# Altium schematic symbol library MCU_ST_STM32F1.SchLib: 125 symbols (part 4 of 4)
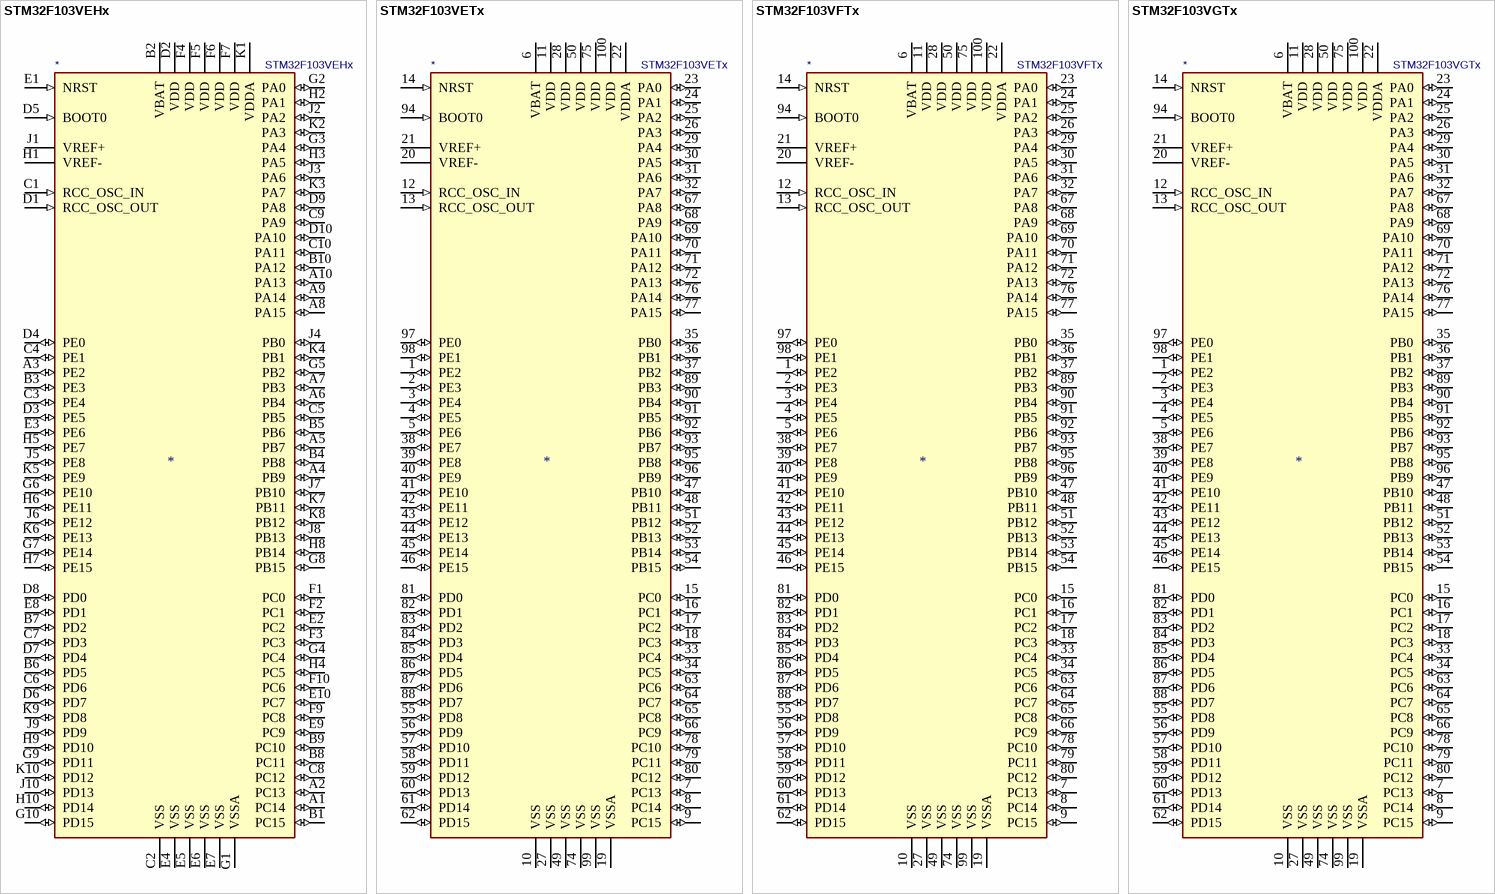
[diagram p23: symbols STM32F103VEHx to STM32F103VGTx]

## STM32F103VGTx
designator *  value STM32F103VGTx
ki_keywords: ARM Cortex-M3 STM32F1 STM32F103; ki_description: ARM Cortex-M3 MCU, 1024KB flash, 96KB RAM, 72MHz, 2-3.6V, 82 GPIO, LQFP-100; ki_fp_filters: LQFP*14x14mm*P0.5mm*; Footprint: Package_QFP:LQFP-100_14x14mm_P0.5mm; Supplier: http://www.st.com/st-web-ui/static/active/en/resource/technical/document/datasheet/CD00253742.pdf
footprint LQFP-100_14x14mm_P0.5mm
pins: 1 PE2 (io), 2 PE3 (io), 3 PE4 (io), 4 PE5 (io), 5 PE6 (io), 6 VBAT (power), 7 PC13 (io), 8 PC14 (io), 9 PC15 (io), 10 VSS (power), 11 VDD (power), 12 RCC_OSC_IN (in), 13 RCC_OSC_OUT (in), 14 NRST (in), 15 PC0 (io), 16 PC1 (io), 17 PC2 (io), 18 PC3 (io), 19 VSSA (power), 20 VREF- (power), 21 VREF+ (power), 22 VDDA (power), 23 PA0 (io), 24 PA1 (io), 25 PA2 (io), 26 PA3 (io), 27 VSS (power), 28 VDD (power), 29 PA4 (io), 30 PA5 (io), 31 PA6 (io), 32 PA7 (io), 33 PC4 (io), 34 PC5 (io), 35 PB0 (io), 36 PB1 (io), 37 PB2 (io), 38 PE7 (io), 39 PE8 (io), 40 PE9 (io), 41 PE10 (io), 42 PE11 (io), 43 PE12 (io), 44 PE13 (io), 45 PE14 (io), 46 PE15 (io), 47 PB10 (io), 48 PB11 (io), 49 VSS (power), 50 VDD (power), 51 PB12 (io), 52 PB13 (io), 53 PB14 (io), 54 PB15 (io), 55 PD8 (io), 56 PD9 (io), 57 PD10 (io), 58 PD11 (io), 59 PD12 (io), 60 PD13 (io), 61 PD14 (io), 62 PD15 (io), 63 PC6 (io), 64 PC7 (io), 65 PC8 (io), 66 PC9 (io), 67 PA8 (io), 68 PA9 (io), 69 PA10 (io), 70 PA11 (io), 71 PA12 (io), 72 PA13 (io), 73 NC (in) hidden, 74 VSS (power), 75 VDD (power), 76 PA14 (io), 77 PA15 (io), 78 PC10 (io), 79 PC11 (io), 80 PC12 (io), 81 PD0 (io), 82 PD1 (io), 83 PD2 (io), 84 PD3 (io), 85 PD4 (io), 86 PD5 (io), 87 PD6 (io), 88 PD7 (io), 89 PB3 (io), 90 PB4 (io), 91 PB5 (io), 92 PB6 (io), 93 PB7 (io), 94 BOOT0 (in), 95 PB8 (io), 96 PB9 (io), 97 PE0 (io), 98 PE1 (io), 99 VSS (power), 100 VDD (power)

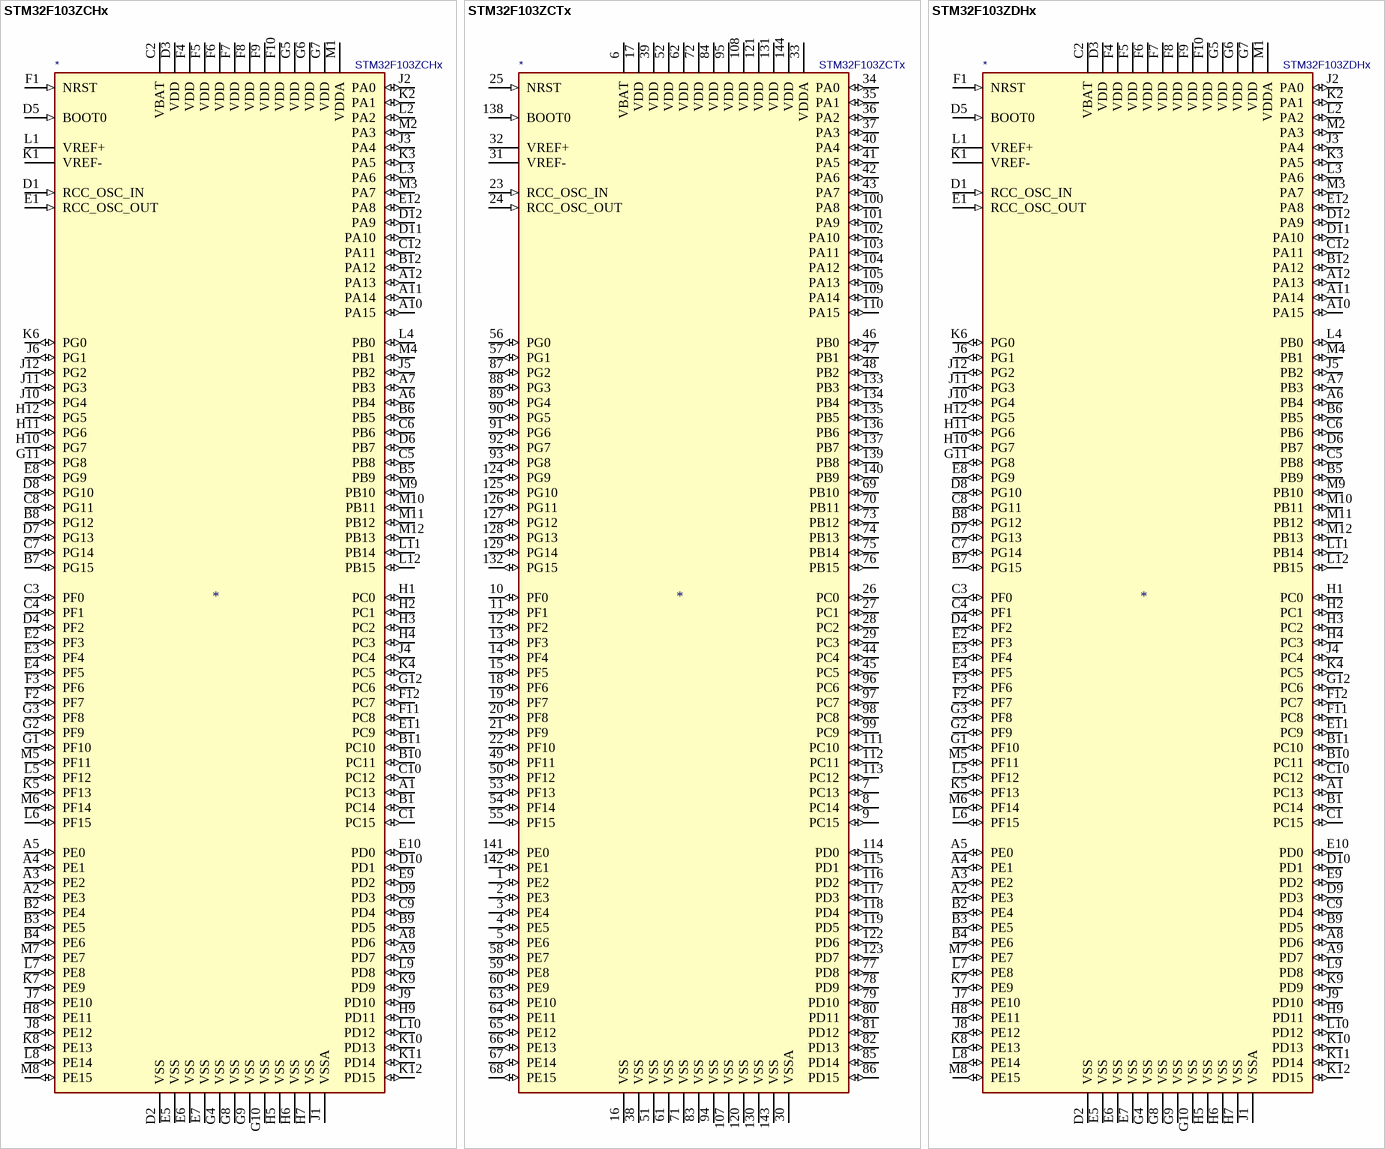
[diagram p15: symbols STM32F103ZCHx to STM32F103ZDHx]

## STM32F103ZCHx
designator *  value STM32F103ZCHx
ki_keywords: ARM Cortex-M3 STM32F1 STM32F103; ki_description: ARM Cortex-M3 MCU, 256KB flash, 48KB RAM, 72MHz, 2-3.6V, 114 GPIO, LFBGA-144; ki_fp_filters: LFBGA*10x10mm*Layout12x12*P0.8mm*; Footprint: Package_BGA:LFBGA-144_10x10mm_Layout12x12_P0.8mm; Supplier: http://www.st.com/st-web-ui/static/active/en/resource/technical/document/datasheet/CD00191185.pdf
footprint LFBGA-144_10x10mm_Layout12x12_P0.8mm
pins: A1 PC13 (io), A2 PE3 (io), A3 PE2 (io), A4 PE1 (io), A5 PE0 (io), A6 PB4 (io), A7 PB3 (io), A8 PD6 (io), A9 PD7 (io), A10 PA15 (io), A11 PA14 (io), A12 PA13 (io), B1 PC14 (io), B2 PE4 (io), B3 PE5 (io), B4 PE6 (io), B5 PB9 (io), B6 PB5 (io), B7 PG15 (io), B8 PG12 (io), B9 PD5 (io), B10 PC11 (io), B11 PC10 (io), B12 PA12 (io), C1 PC15 (io), C2 VBAT (power), C3 PF0 (io), C4 PF1 (io), C5 PB8 (io), C6 PB6 (io), C7 PG14 (io), C8 PG11 (io), C9 PD4 (io), C10 PC12 (io), C11 NC (in) hidden, C12 PA11 (io), D1 RCC_OSC_IN (in), D2 VSS (power), D3 VDD (power), D4 PF2 (io), D5 BOOT0 (in), D6 PB7 (io), D7 PG13 (io), D8 PG10 (io), D9 PD3 (io), D10 PD1 (io), D11 PA10 (io), D12 PA9 (io), E1 RCC_OSC_OUT (in), E2 PF3 (io), E3 PF4 (io), E4 PF5 (io), E5 VSS (power), E6 VSS (power), E7 VSS (power), E8 PG9 (io), E9 PD2 (io), E10 PD0 (io), E11 PC9 (io), E12 PA8 (io), F1 NRST (in), F2 PF7 (io), F3 PF6 (io), F4 VDD (power), F5 VDD (power), F6 VDD (power), F7 VDD (power), F8 VDD (power), F9 VDD (power), F10 VDD (power), F11 PC8 (io), F12 PC7 (io), G1 PF10 (io), G2 PF9 (io), G3 PF8 (io), G4 VSS (power), G5 VDD (power), G6 VDD (power), G7 VDD (power), G8 VSS (power), G9 VSS (power), G10 VSS (power), G11 PG8 (io), G12 PC6 (io), H1 PC0 (io), H2 PC1 (io), H3 PC2 (io), H4 PC3 (io), H5 VSS (power), H6 VSS (power), H7 VSS (power), H8 PE11 (io), H9 PD11 (io), H10 PG7 (io), H11 PG6 (io), H12 PG5 (io), J1 VSSA (power), J2 PA0 (io), J3 PA4 (io), J4 PC4 (io), J5 PB2 (io), J6 PG1 (io), J7 PE10 (io), J8 PE12 (io), J9 PD10 (io), J10 PG4 (io), J11 PG3 (io), J12 PG2 (io), K1 VREF- (power), K2 PA1 (io), K3 PA5 (io), K4 PC5 (io), K5 PF13 (io), K6 PG0 (io), K7 PE9 (io), K8 PE13 (io), K9 PD9 (io), K10 PD13 (io), K11 PD14 (io), K12 PD15 (io), L1 VREF+ (power), L2 PA2 (io), L3 PA6 (io), L4 PB0 (io), L5 PF12 (io), L6 PF15 (io), L7 PE8 (io), L8 PE14 (io), L9 PD8 (io), L10 PD12 (io), L11 PB14 (io), L12 PB15 (io), M1 VDDA (power), M2 PA3 (io), M3 PA7 (io), M4 PB1 (io), M5 PF11 (io), M6 PF14 (io), M7 PE7 (io), M8 PE15 (io), M9 PB10 (io), M10 PB11 (io), M11 PB12 (io), M12 PB13 (io)

## STM32F103ZCTx
designator *  value STM32F103ZCTx
ki_keywords: ARM Cortex-M3 STM32F1 STM32F103; ki_description: ARM Cortex-M3 MCU, 256KB flash, 48KB RAM, 72MHz, 2-3.6V, 114 GPIO, LQFP-144; ki_fp_filters: LQFP*20x20mm*P0.5mm*; Footprint: Package_QFP:LQFP-144_20x20mm_P0.5mm; Supplier: http://www.st.com/st-web-ui/static/active/en/resource/technical/document/datasheet/CD00191185.pdf
footprint LQFP-144_20x20mm_P0.5mm
pins: 1 PE2 (io), 2 PE3 (io), 3 PE4 (io), 4 PE5 (io), 5 PE6 (io), 6 VBAT (power), 7 PC13 (io), 8 PC14 (io), 9 PC15 (io), 10 PF0 (io), 11 PF1 (io), 12 PF2 (io), 13 PF3 (io), 14 PF4 (io), 15 PF5 (io), 16 VSS (power), 17 VDD (power), 18 PF6 (io), 19 PF7 (io), 20 PF8 (io), 21 PF9 (io), 22 PF10 (io), 23 RCC_OSC_IN (in), 24 RCC_OSC_OUT (in), 25 NRST (in), 26 PC0 (io), 27 PC1 (io), 28 PC2 (io), 29 PC3 (io), 30 VSSA (power), 31 VREF- (power), 32 VREF+ (power), 33 VDDA (power), 34 PA0 (io), 35 PA1 (io), 36 PA2 (io), 37 PA3 (io), 38 VSS (power), 39 VDD (power), 40 PA4 (io), 41 PA5 (io), 42 PA6 (io), 43 PA7 (io), 44 PC4 (io), 45 PC5 (io), 46 PB0 (io), 47 PB1 (io), 48 PB2 (io), 49 PF11 (io), 50 PF12 (io), 51 VSS (power), 52 VDD (power), 53 PF13 (io), 54 PF14 (io), 55 PF15 (io), 56 PG0 (io), 57 PG1 (io), 58 PE7 (io), 59 PE8 (io), 60 PE9 (io), 61 VSS (power), 62 VDD (power), 63 PE10 (io), 64 PE11 (io), 65 PE12 (io), 66 PE13 (io), 67 PE14 (io), 68 PE15 (io), 69 PB10 (io), 70 PB11 (io), 71 VSS (power), 72 VDD (power), 73 PB12 (io), 74 PB13 (io), 75 PB14 (io), 76 PB15 (io), 77 PD8 (io), 78 PD9 (io), 79 PD10 (io), 80 PD11 (io), 81 PD12 (io), 82 PD13 (io), 83 VSS (power), 84 VDD (power), 85 PD14 (io), 86 PD15 (io), 87 PG2 (io), 88 PG3 (io), 89 PG4 (io), 90 PG5 (io), 91 PG6 (io), 92 PG7 (io), 93 PG8 (io), 94 VSS (power), 95 VDD (power), 96 PC6 (io), 97 PC7 (io), 98 PC8 (io), 99 PC9 (io), 100 PA8 (io), 101 PA9 (io), 102 PA10 (io), 103 PA11 (io), 104 PA12 (io), 105 PA13 (io), 106 NC (in) hidden, 107 VSS (power), 108 VDD (power), 109 PA14 (io), 110 PA15 (io), 111 PC10 (io), 112 PC11 (io), 113 PC12 (io), 114 PD0 (io), 115 PD1 (io), 116 PD2 (io), 117 PD3 (io), 118 PD4 (io), 119 PD5 (io), 120 VSS (power), 121 VDD (power), 122 PD6 (io), 123 PD7 (io), 124 PG9 (io), 125 PG10 (io), 126 PG11 (io), 127 PG12 (io), 128 PG13 (io), 129 PG14 (io), 130 VSS (power), 131 VDD (power), 132 PG15 (io), 133 PB3 (io), 134 PB4 (io), 135 PB5 (io), 136 PB6 (io), 137 PB7 (io), 138 BOOT0 (in), 139 PB8 (io), 140 PB9 (io), 141 PE0 (io), 142 PE1 (io), 143 VSS (power), 144 VDD (power)

## STM32F103ZDHx
designator *  value STM32F103ZDHx
ki_keywords: ARM Cortex-M3 STM32F1 STM32F103; ki_description: ARM Cortex-M3 MCU, 384KB flash, 64KB RAM, 72MHz, 2-3.6V, 114 GPIO, LFBGA-144; ki_fp_filters: LFBGA*10x10mm*Layout12x12*P0.8mm*; Footprint: Package_BGA:LFBGA-144_10x10mm_Layout12x12_P0.8mm; Supplier: http://www.st.com/st-web-ui/static/active/en/resource/technical/document/datasheet/CD00191185.pdf
footprint LFBGA-144_10x10mm_Layout12x12_P0.8mm
pins: A1 PC13 (io), A2 PE3 (io), A3 PE2 (io), A4 PE1 (io), A5 PE0 (io), A6 PB4 (io), A7 PB3 (io), A8 PD6 (io), A9 PD7 (io), A10 PA15 (io), A11 PA14 (io), A12 PA13 (io), B1 PC14 (io), B2 PE4 (io), B3 PE5 (io), B4 PE6 (io), B5 PB9 (io), B6 PB5 (io), B7 PG15 (io), B8 PG12 (io), B9 PD5 (io), B10 PC11 (io), B11 PC10 (io), B12 PA12 (io), C1 PC15 (io), C2 VBAT (power), C3 PF0 (io), C4 PF1 (io), C5 PB8 (io), C6 PB6 (io), C7 PG14 (io), C8 PG11 (io), C9 PD4 (io), C10 PC12 (io), C11 NC (in) hidden, C12 PA11 (io), D1 RCC_OSC_IN (in), D2 VSS (power), D3 VDD (power), D4 PF2 (io), D5 BOOT0 (in), D6 PB7 (io), D7 PG13 (io), D8 PG10 (io), D9 PD3 (io), D10 PD1 (io), D11 PA10 (io), D12 PA9 (io), E1 RCC_OSC_OUT (in), E2 PF3 (io), E3 PF4 (io), E4 PF5 (io), E5 VSS (power), E6 VSS (power), E7 VSS (power), E8 PG9 (io), E9 PD2 (io), E10 PD0 (io), E11 PC9 (io), E12 PA8 (io), F1 NRST (in), F2 PF7 (io), F3 PF6 (io), F4 VDD (power), F5 VDD (power), F6 VDD (power), F7 VDD (power), F8 VDD (power), F9 VDD (power), F10 VDD (power), F11 PC8 (io), F12 PC7 (io), G1 PF10 (io), G2 PF9 (io), G3 PF8 (io), G4 VSS (power), G5 VDD (power), G6 VDD (power), G7 VDD (power), G8 VSS (power), G9 VSS (power), G10 VSS (power), G11 PG8 (io), G12 PC6 (io), H1 PC0 (io), H2 PC1 (io), H3 PC2 (io), H4 PC3 (io), H5 VSS (power), H6 VSS (power), H7 VSS (power), H8 PE11 (io), H9 PD11 (io), H10 PG7 (io), H11 PG6 (io), H12 PG5 (io), J1 VSSA (power), J2 PA0 (io), J3 PA4 (io), J4 PC4 (io), J5 PB2 (io), J6 PG1 (io), J7 PE10 (io), J8 PE12 (io), J9 PD10 (io), J10 PG4 (io), J11 PG3 (io), J12 PG2 (io), K1 VREF- (power), K2 PA1 (io), K3 PA5 (io), K4 PC5 (io), K5 PF13 (io), K6 PG0 (io), K7 PE9 (io), K8 PE13 (io), K9 PD9 (io), K10 PD13 (io), K11 PD14 (io), K12 PD15 (io), L1 VREF+ (power), L2 PA2 (io), L3 PA6 (io), L4 PB0 (io), L5 PF12 (io), L6 PF15 (io), L7 PE8 (io), L8 PE14 (io), L9 PD8 (io), L10 PD12 (io), L11 PB14 (io), L12 PB15 (io), M1 VDDA (power), M2 PA3 (io), M3 PA7 (io), M4 PB1 (io), M5 PF11 (io), M6 PF14 (io), M7 PE7 (io), M8 PE15 (io), M9 PB10 (io), M10 PB11 (io), M11 PB12 (io), M12 PB13 (io)

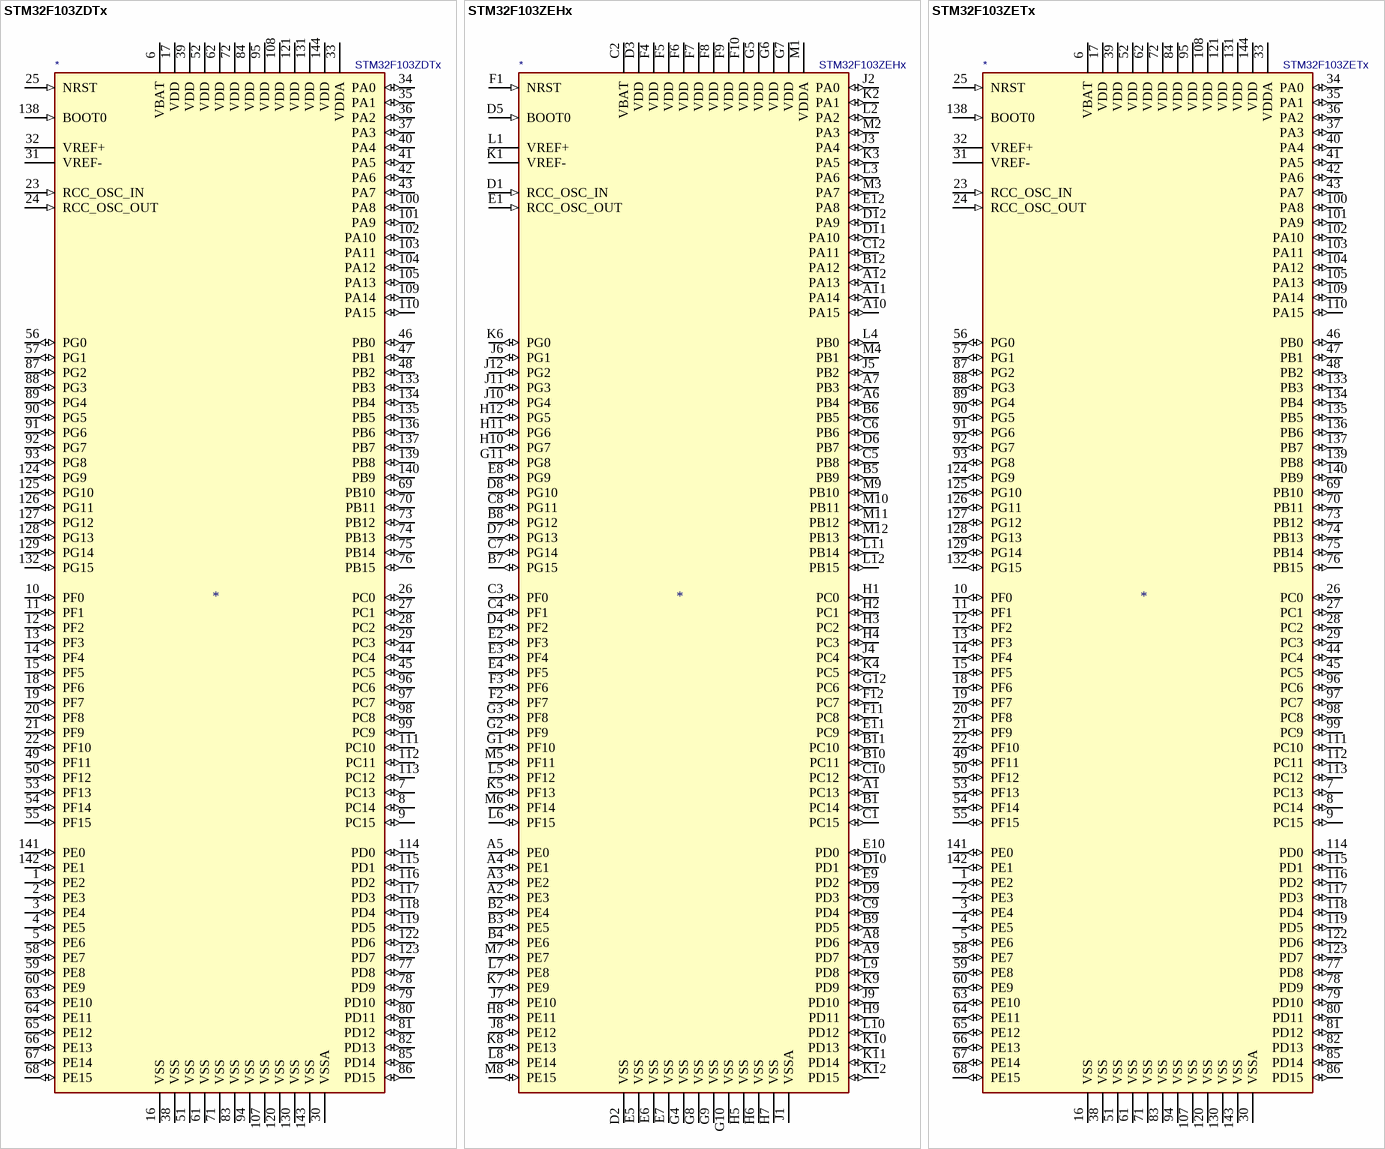
[diagram p16: symbols STM32F103ZDTx to STM32F103ZETx]

## STM32F103ZDTx
designator *  value STM32F103ZDTx
ki_keywords: ARM Cortex-M3 STM32F1 STM32F103; ki_description: ARM Cortex-M3 MCU, 384KB flash, 64KB RAM, 72MHz, 2-3.6V, 114 GPIO, LQFP-144; ki_fp_filters: LQFP*20x20mm*P0.5mm*; Footprint: Package_QFP:LQFP-144_20x20mm_P0.5mm; Supplier: http://www.st.com/st-web-ui/static/active/en/resource/technical/document/datasheet/CD00191185.pdf
footprint LQFP-144_20x20mm_P0.5mm
pins: 1 PE2 (io), 2 PE3 (io), 3 PE4 (io), 4 PE5 (io), 5 PE6 (io), 6 VBAT (power), 7 PC13 (io), 8 PC14 (io), 9 PC15 (io), 10 PF0 (io), 11 PF1 (io), 12 PF2 (io), 13 PF3 (io), 14 PF4 (io), 15 PF5 (io), 16 VSS (power), 17 VDD (power), 18 PF6 (io), 19 PF7 (io), 20 PF8 (io), 21 PF9 (io), 22 PF10 (io), 23 RCC_OSC_IN (in), 24 RCC_OSC_OUT (in), 25 NRST (in), 26 PC0 (io), 27 PC1 (io), 28 PC2 (io), 29 PC3 (io), 30 VSSA (power), 31 VREF- (power), 32 VREF+ (power), 33 VDDA (power), 34 PA0 (io), 35 PA1 (io), 36 PA2 (io), 37 PA3 (io), 38 VSS (power), 39 VDD (power), 40 PA4 (io), 41 PA5 (io), 42 PA6 (io), 43 PA7 (io), 44 PC4 (io), 45 PC5 (io), 46 PB0 (io), 47 PB1 (io), 48 PB2 (io), 49 PF11 (io), 50 PF12 (io), 51 VSS (power), 52 VDD (power), 53 PF13 (io), 54 PF14 (io), 55 PF15 (io), 56 PG0 (io), 57 PG1 (io), 58 PE7 (io), 59 PE8 (io), 60 PE9 (io), 61 VSS (power), 62 VDD (power), 63 PE10 (io), 64 PE11 (io), 65 PE12 (io), 66 PE13 (io), 67 PE14 (io), 68 PE15 (io), 69 PB10 (io), 70 PB11 (io), 71 VSS (power), 72 VDD (power), 73 PB12 (io), 74 PB13 (io), 75 PB14 (io), 76 PB15 (io), 77 PD8 (io), 78 PD9 (io), 79 PD10 (io), 80 PD11 (io), 81 PD12 (io), 82 PD13 (io), 83 VSS (power), 84 VDD (power), 85 PD14 (io), 86 PD15 (io), 87 PG2 (io), 88 PG3 (io), 89 PG4 (io), 90 PG5 (io), 91 PG6 (io), 92 PG7 (io), 93 PG8 (io), 94 VSS (power), 95 VDD (power), 96 PC6 (io), 97 PC7 (io), 98 PC8 (io), 99 PC9 (io), 100 PA8 (io), 101 PA9 (io), 102 PA10 (io), 103 PA11 (io), 104 PA12 (io), 105 PA13 (io), 106 NC (in) hidden, 107 VSS (power), 108 VDD (power), 109 PA14 (io), 110 PA15 (io), 111 PC10 (io), 112 PC11 (io), 113 PC12 (io), 114 PD0 (io), 115 PD1 (io), 116 PD2 (io), 117 PD3 (io), 118 PD4 (io), 119 PD5 (io), 120 VSS (power), 121 VDD (power), 122 PD6 (io), 123 PD7 (io), 124 PG9 (io), 125 PG10 (io), 126 PG11 (io), 127 PG12 (io), 128 PG13 (io), 129 PG14 (io), 130 VSS (power), 131 VDD (power), 132 PG15 (io), 133 PB3 (io), 134 PB4 (io), 135 PB5 (io), 136 PB6 (io), 137 PB7 (io), 138 BOOT0 (in), 139 PB8 (io), 140 PB9 (io), 141 PE0 (io), 142 PE1 (io), 143 VSS (power), 144 VDD (power)

## STM32F103ZEHx
designator *  value STM32F103ZEHx
ki_keywords: ARM Cortex-M3 STM32F1 STM32F103; ki_description: ARM Cortex-M3 MCU, 512KB flash, 64KB RAM, 72MHz, 2-3.6V, 114 GPIO, LFBGA-144; ki_fp_filters: LFBGA*10x10mm*Layout12x12*P0.8mm*; Footprint: Package_BGA:LFBGA-144_10x10mm_Layout12x12_P0.8mm; Supplier: http://www.st.com/st-web-ui/static/active/en/resource/technical/document/datasheet/CD00191185.pdf
footprint LFBGA-144_10x10mm_Layout12x12_P0.8mm
pins: A1 PC13 (io), A2 PE3 (io), A3 PE2 (io), A4 PE1 (io), A5 PE0 (io), A6 PB4 (io), A7 PB3 (io), A8 PD6 (io), A9 PD7 (io), A10 PA15 (io), A11 PA14 (io), A12 PA13 (io), B1 PC14 (io), B2 PE4 (io), B3 PE5 (io), B4 PE6 (io), B5 PB9 (io), B6 PB5 (io), B7 PG15 (io), B8 PG12 (io), B9 PD5 (io), B10 PC11 (io), B11 PC10 (io), B12 PA12 (io), C1 PC15 (io), C2 VBAT (power), C3 PF0 (io), C4 PF1 (io), C5 PB8 (io), C6 PB6 (io), C7 PG14 (io), C8 PG11 (io), C9 PD4 (io), C10 PC12 (io), C11 NC (in) hidden, C12 PA11 (io), D1 RCC_OSC_IN (in), D2 VSS (power), D3 VDD (power), D4 PF2 (io), D5 BOOT0 (in), D6 PB7 (io), D7 PG13 (io), D8 PG10 (io), D9 PD3 (io), D10 PD1 (io), D11 PA10 (io), D12 PA9 (io), E1 RCC_OSC_OUT (in), E2 PF3 (io), E3 PF4 (io), E4 PF5 (io), E5 VSS (power), E6 VSS (power), E7 VSS (power), E8 PG9 (io), E9 PD2 (io), E10 PD0 (io), E11 PC9 (io), E12 PA8 (io), F1 NRST (in), F2 PF7 (io), F3 PF6 (io), F4 VDD (power), F5 VDD (power), F6 VDD (power), F7 VDD (power), F8 VDD (power), F9 VDD (power), F10 VDD (power), F11 PC8 (io), F12 PC7 (io), G1 PF10 (io), G2 PF9 (io), G3 PF8 (io), G4 VSS (power), G5 VDD (power), G6 VDD (power), G7 VDD (power), G8 VSS (power), G9 VSS (power), G10 VSS (power), G11 PG8 (io), G12 PC6 (io), H1 PC0 (io), H2 PC1 (io), H3 PC2 (io), H4 PC3 (io), H5 VSS (power), H6 VSS (power), H7 VSS (power), H8 PE11 (io), H9 PD11 (io), H10 PG7 (io), H11 PG6 (io), H12 PG5 (io), J1 VSSA (power), J2 PA0 (io), J3 PA4 (io), J4 PC4 (io), J5 PB2 (io), J6 PG1 (io), J7 PE10 (io), J8 PE12 (io), J9 PD10 (io), J10 PG4 (io), J11 PG3 (io), J12 PG2 (io), K1 VREF- (power), K2 PA1 (io), K3 PA5 (io), K4 PC5 (io), K5 PF13 (io), K6 PG0 (io), K7 PE9 (io), K8 PE13 (io), K9 PD9 (io), K10 PD13 (io), K11 PD14 (io), K12 PD15 (io), L1 VREF+ (power), L2 PA2 (io), L3 PA6 (io), L4 PB0 (io), L5 PF12 (io), L6 PF15 (io), L7 PE8 (io), L8 PE14 (io), L9 PD8 (io), L10 PD12 (io), L11 PB14 (io), L12 PB15 (io), M1 VDDA (power), M2 PA3 (io), M3 PA7 (io), M4 PB1 (io), M5 PF11 (io), M6 PF14 (io), M7 PE7 (io), M8 PE15 (io), M9 PB10 (io), M10 PB11 (io), M11 PB12 (io), M12 PB13 (io)

## STM32F103ZETx
designator *  value STM32F103ZETx
ki_keywords: ARM Cortex-M3 STM32F1 STM32F103; ki_description: ARM Cortex-M3 MCU, 512KB flash, 64KB RAM, 72MHz, 2-3.6V, 114 GPIO, LQFP-144; ki_fp_filters: LQFP*20x20mm*P0.5mm*; Footprint: Package_QFP:LQFP-144_20x20mm_P0.5mm; Supplier: http://www.st.com/st-web-ui/static/active/en/resource/technical/document/datasheet/CD00191185.pdf
footprint LQFP-144_20x20mm_P0.5mm
pins: 1 PE2 (io), 2 PE3 (io), 3 PE4 (io), 4 PE5 (io), 5 PE6 (io), 6 VBAT (power), 7 PC13 (io), 8 PC14 (io), 9 PC15 (io), 10 PF0 (io), 11 PF1 (io), 12 PF2 (io), 13 PF3 (io), 14 PF4 (io), 15 PF5 (io), 16 VSS (power), 17 VDD (power), 18 PF6 (io), 19 PF7 (io), 20 PF8 (io), 21 PF9 (io), 22 PF10 (io), 23 RCC_OSC_IN (in), 24 RCC_OSC_OUT (in), 25 NRST (in), 26 PC0 (io), 27 PC1 (io), 28 PC2 (io), 29 PC3 (io), 30 VSSA (power), 31 VREF- (power), 32 VREF+ (power), 33 VDDA (power), 34 PA0 (io), 35 PA1 (io), 36 PA2 (io), 37 PA3 (io), 38 VSS (power), 39 VDD (power), 40 PA4 (io), 41 PA5 (io), 42 PA6 (io), 43 PA7 (io), 44 PC4 (io), 45 PC5 (io), 46 PB0 (io), 47 PB1 (io), 48 PB2 (io), 49 PF11 (io), 50 PF12 (io), 51 VSS (power), 52 VDD (power), 53 PF13 (io), 54 PF14 (io), 55 PF15 (io), 56 PG0 (io), 57 PG1 (io), 58 PE7 (io), 59 PE8 (io), 60 PE9 (io), 61 VSS (power), 62 VDD (power), 63 PE10 (io), 64 PE11 (io), 65 PE12 (io), 66 PE13 (io), 67 PE14 (io), 68 PE15 (io), 69 PB10 (io), 70 PB11 (io), 71 VSS (power), 72 VDD (power), 73 PB12 (io), 74 PB13 (io), 75 PB14 (io), 76 PB15 (io), 77 PD8 (io), 78 PD9 (io), 79 PD10 (io), 80 PD11 (io), 81 PD12 (io), 82 PD13 (io), 83 VSS (power), 84 VDD (power), 85 PD14 (io), 86 PD15 (io), 87 PG2 (io), 88 PG3 (io), 89 PG4 (io), 90 PG5 (io), 91 PG6 (io), 92 PG7 (io), 93 PG8 (io), 94 VSS (power), 95 VDD (power), 96 PC6 (io), 97 PC7 (io), 98 PC8 (io), 99 PC9 (io), 100 PA8 (io), 101 PA9 (io), 102 PA10 (io), 103 PA11 (io), 104 PA12 (io), 105 PA13 (io), 106 NC (in) hidden, 107 VSS (power), 108 VDD (power), 109 PA14 (io), 110 PA15 (io), 111 PC10 (io), 112 PC11 (io), 113 PC12 (io), 114 PD0 (io), 115 PD1 (io), 116 PD2 (io), 117 PD3 (io), 118 PD4 (io), 119 PD5 (io), 120 VSS (power), 121 VDD (power), 122 PD6 (io), 123 PD7 (io), 124 PG9 (io), 125 PG10 (io), 126 PG11 (io), 127 PG12 (io), 128 PG13 (io), 129 PG14 (io), 130 VSS (power), 131 VDD (power), 132 PG15 (io), 133 PB3 (io), 134 PB4 (io), 135 PB5 (io), 136 PB6 (io), 137 PB7 (io), 138 BOOT0 (in), 139 PB8 (io), 140 PB9 (io), 141 PE0 (io), 142 PE1 (io), 143 VSS (power), 144 VDD (power)

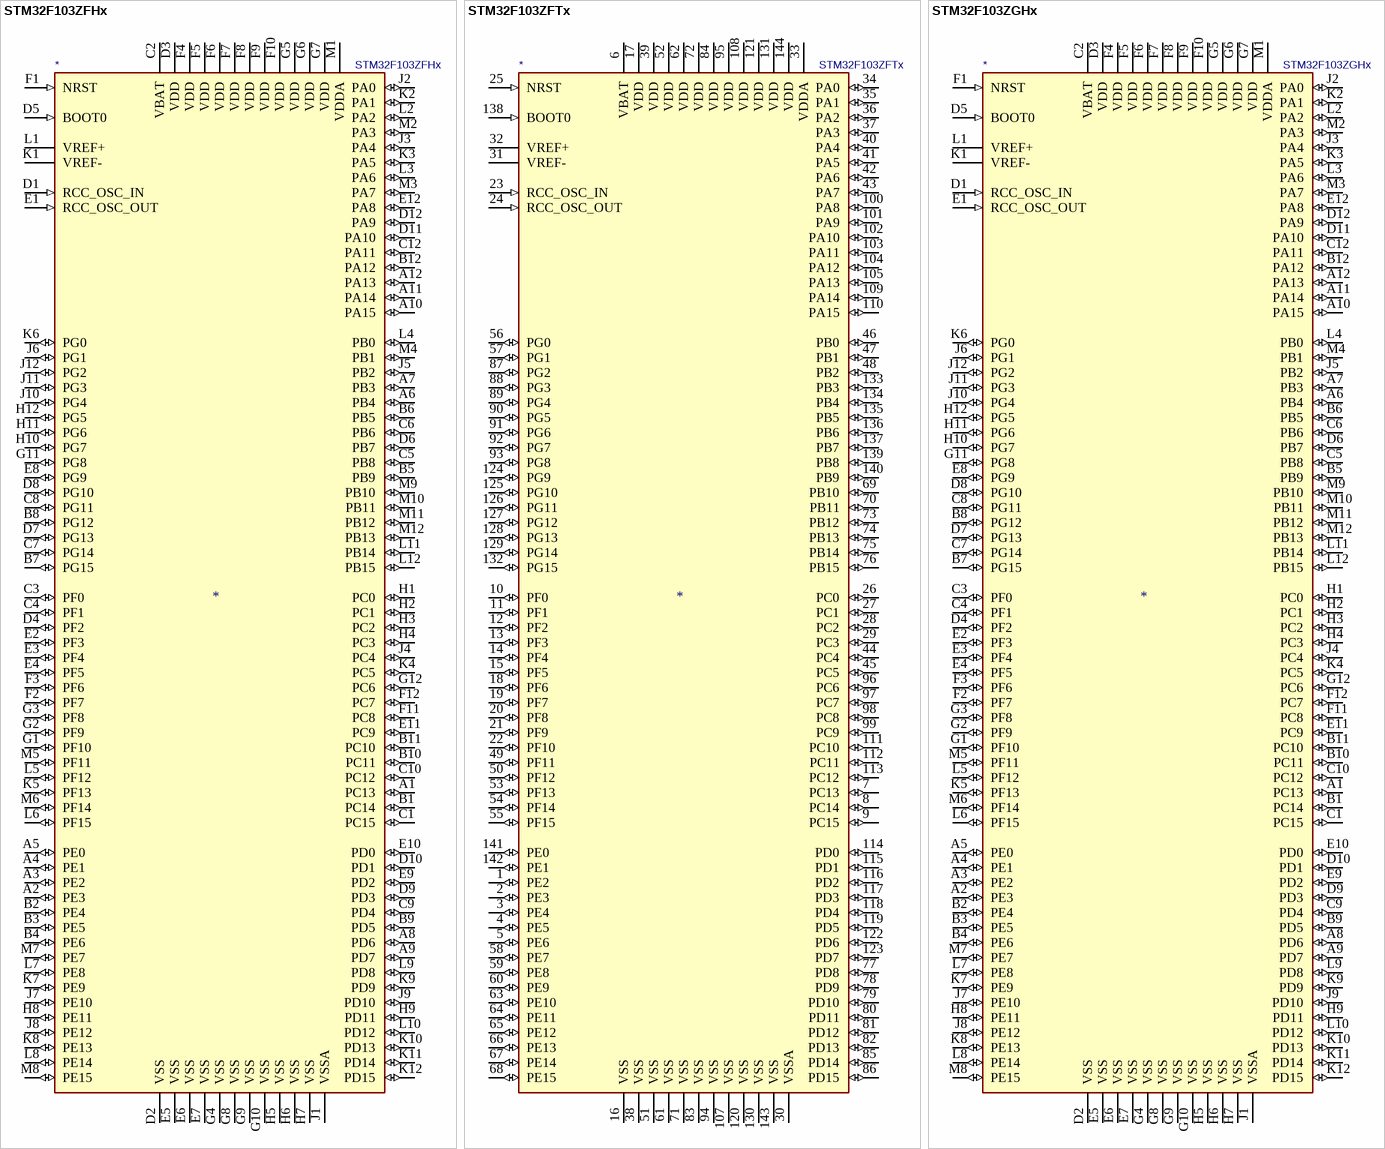
[diagram p17: symbols STM32F103ZFHx to STM32F103ZGHx]

## STM32F103ZFHx
designator *  value STM32F103ZFHx
ki_keywords: ARM Cortex-M3 STM32F1 STM32F103; ki_description: ARM Cortex-M3 MCU, 768KB flash, 96KB RAM, 72MHz, 2-3.6V, 114 GPIO, LFBGA-144; ki_fp_filters: LFBGA*10x10mm*Layout12x12*P0.8mm*; Footprint: Package_BGA:LFBGA-144_10x10mm_Layout12x12_P0.8mm; Supplier: http://www.st.com/st-web-ui/static/active/en/resource/technical/document/datasheet/CD00253742.pdf
footprint LFBGA-144_10x10mm_Layout12x12_P0.8mm
pins: A1 PC13 (io), A2 PE3 (io), A3 PE2 (io), A4 PE1 (io), A5 PE0 (io), A6 PB4 (io), A7 PB3 (io), A8 PD6 (io), A9 PD7 (io), A10 PA15 (io), A11 PA14 (io), A12 PA13 (io), B1 PC14 (io), B2 PE4 (io), B3 PE5 (io), B4 PE6 (io), B5 PB9 (io), B6 PB5 (io), B7 PG15 (io), B8 PG12 (io), B9 PD5 (io), B10 PC11 (io), B11 PC10 (io), B12 PA12 (io), C1 PC15 (io), C2 VBAT (power), C3 PF0 (io), C4 PF1 (io), C5 PB8 (io), C6 PB6 (io), C7 PG14 (io), C8 PG11 (io), C9 PD4 (io), C10 PC12 (io), C11 NC (in) hidden, C12 PA11 (io), D1 RCC_OSC_IN (in), D2 VSS (power), D3 VDD (power), D4 PF2 (io), D5 BOOT0 (in), D6 PB7 (io), D7 PG13 (io), D8 PG10 (io), D9 PD3 (io), D10 PD1 (io), D11 PA10 (io), D12 PA9 (io), E1 RCC_OSC_OUT (in), E2 PF3 (io), E3 PF4 (io), E4 PF5 (io), E5 VSS (power), E6 VSS (power), E7 VSS (power), E8 PG9 (io), E9 PD2 (io), E10 PD0 (io), E11 PC9 (io), E12 PA8 (io), F1 NRST (in), F2 PF7 (io), F3 PF6 (io), F4 VDD (power), F5 VDD (power), F6 VDD (power), F7 VDD (power), F8 VDD (power), F9 VDD (power), F10 VDD (power), F11 PC8 (io), F12 PC7 (io), G1 PF10 (io), G2 PF9 (io), G3 PF8 (io), G4 VSS (power), G5 VDD (power), G6 VDD (power), G7 VDD (power), G8 VSS (power), G9 VSS (power), G10 VSS (power), G11 PG8 (io), G12 PC6 (io), H1 PC0 (io), H2 PC1 (io), H3 PC2 (io), H4 PC3 (io), H5 VSS (power), H6 VSS (power), H7 VSS (power), H8 PE11 (io), H9 PD11 (io), H10 PG7 (io), H11 PG6 (io), H12 PG5 (io), J1 VSSA (power), J2 PA0 (io), J3 PA4 (io), J4 PC4 (io), J5 PB2 (io), J6 PG1 (io), J7 PE10 (io), J8 PE12 (io), J9 PD10 (io), J10 PG4 (io), J11 PG3 (io), J12 PG2 (io), K1 VREF- (power), K2 PA1 (io), K3 PA5 (io), K4 PC5 (io), K5 PF13 (io), K6 PG0 (io), K7 PE9 (io), K8 PE13 (io), K9 PD9 (io), K10 PD13 (io), K11 PD14 (io), K12 PD15 (io), L1 VREF+ (power), L2 PA2 (io), L3 PA6 (io), L4 PB0 (io), L5 PF12 (io), L6 PF15 (io), L7 PE8 (io), L8 PE14 (io), L9 PD8 (io), L10 PD12 (io), L11 PB14 (io), L12 PB15 (io), M1 VDDA (power), M2 PA3 (io), M3 PA7 (io), M4 PB1 (io), M5 PF11 (io), M6 PF14 (io), M7 PE7 (io), M8 PE15 (io), M9 PB10 (io), M10 PB11 (io), M11 PB12 (io), M12 PB13 (io)

## STM32F103ZFTx
designator *  value STM32F103ZFTx
ki_keywords: ARM Cortex-M3 STM32F1 STM32F103; ki_description: ARM Cortex-M3 MCU, 768KB flash, 96KB RAM, 72MHz, 2-3.6V, 114 GPIO, LQFP-144; ki_fp_filters: LQFP*20x20mm*P0.5mm*; Footprint: Package_QFP:LQFP-144_20x20mm_P0.5mm; Supplier: http://www.st.com/st-web-ui/static/active/en/resource/technical/document/datasheet/CD00253742.pdf
footprint LQFP-144_20x20mm_P0.5mm
pins: 1 PE2 (io), 2 PE3 (io), 3 PE4 (io), 4 PE5 (io), 5 PE6 (io), 6 VBAT (power), 7 PC13 (io), 8 PC14 (io), 9 PC15 (io), 10 PF0 (io), 11 PF1 (io), 12 PF2 (io), 13 PF3 (io), 14 PF4 (io), 15 PF5 (io), 16 VSS (power), 17 VDD (power), 18 PF6 (io), 19 PF7 (io), 20 PF8 (io), 21 PF9 (io), 22 PF10 (io), 23 RCC_OSC_IN (in), 24 RCC_OSC_OUT (in), 25 NRST (in), 26 PC0 (io), 27 PC1 (io), 28 PC2 (io), 29 PC3 (io), 30 VSSA (power), 31 VREF- (power), 32 VREF+ (power), 33 VDDA (power), 34 PA0 (io), 35 PA1 (io), 36 PA2 (io), 37 PA3 (io), 38 VSS (power), 39 VDD (power), 40 PA4 (io), 41 PA5 (io), 42 PA6 (io), 43 PA7 (io), 44 PC4 (io), 45 PC5 (io), 46 PB0 (io), 47 PB1 (io), 48 PB2 (io), 49 PF11 (io), 50 PF12 (io), 51 VSS (power), 52 VDD (power), 53 PF13 (io), 54 PF14 (io), 55 PF15 (io), 56 PG0 (io), 57 PG1 (io), 58 PE7 (io), 59 PE8 (io), 60 PE9 (io), 61 VSS (power), 62 VDD (power), 63 PE10 (io), 64 PE11 (io), 65 PE12 (io), 66 PE13 (io), 67 PE14 (io), 68 PE15 (io), 69 PB10 (io), 70 PB11 (io), 71 VSS (power), 72 VDD (power), 73 PB12 (io), 74 PB13 (io), 75 PB14 (io), 76 PB15 (io), 77 PD8 (io), 78 PD9 (io), 79 PD10 (io), 80 PD11 (io), 81 PD12 (io), 82 PD13 (io), 83 VSS (power), 84 VDD (power), 85 PD14 (io), 86 PD15 (io), 87 PG2 (io), 88 PG3 (io), 89 PG4 (io), 90 PG5 (io), 91 PG6 (io), 92 PG7 (io), 93 PG8 (io), 94 VSS (power), 95 VDD (power), 96 PC6 (io), 97 PC7 (io), 98 PC8 (io), 99 PC9 (io), 100 PA8 (io), 101 PA9 (io), 102 PA10 (io), 103 PA11 (io), 104 PA12 (io), 105 PA13 (io), 106 NC (in) hidden, 107 VSS (power), 108 VDD (power), 109 PA14 (io), 110 PA15 (io), 111 PC10 (io), 112 PC11 (io), 113 PC12 (io), 114 PD0 (io), 115 PD1 (io), 116 PD2 (io), 117 PD3 (io), 118 PD4 (io), 119 PD5 (io), 120 VSS (power), 121 VDD (power), 122 PD6 (io), 123 PD7 (io), 124 PG9 (io), 125 PG10 (io), 126 PG11 (io), 127 PG12 (io), 128 PG13 (io), 129 PG14 (io), 130 VSS (power), 131 VDD (power), 132 PG15 (io), 133 PB3 (io), 134 PB4 (io), 135 PB5 (io), 136 PB6 (io), 137 PB7 (io), 138 BOOT0 (in), 139 PB8 (io), 140 PB9 (io), 141 PE0 (io), 142 PE1 (io), 143 VSS (power), 144 VDD (power)

## STM32F103ZGHx
designator *  value STM32F103ZGHx
ki_keywords: ARM Cortex-M3 STM32F1 STM32F103; ki_description: ARM Cortex-M3 MCU, 1024KB flash, 96KB RAM, 72MHz, 2-3.6V, 114 GPIO, LFBGA-144; ki_fp_filters: LFBGA*10x10mm*Layout12x12*P0.8mm*; Footprint: Package_BGA:LFBGA-144_10x10mm_Layout12x12_P0.8mm; Supplier: http://www.st.com/st-web-ui/static/active/en/resource/technical/document/datasheet/CD00253742.pdf
footprint LFBGA-144_10x10mm_Layout12x12_P0.8mm
pins: A1 PC13 (io), A2 PE3 (io), A3 PE2 (io), A4 PE1 (io), A5 PE0 (io), A6 PB4 (io), A7 PB3 (io), A8 PD6 (io), A9 PD7 (io), A10 PA15 (io), A11 PA14 (io), A12 PA13 (io), B1 PC14 (io), B2 PE4 (io), B3 PE5 (io), B4 PE6 (io), B5 PB9 (io), B6 PB5 (io), B7 PG15 (io), B8 PG12 (io), B9 PD5 (io), B10 PC11 (io), B11 PC10 (io), B12 PA12 (io), C1 PC15 (io), C2 VBAT (power), C3 PF0 (io), C4 PF1 (io), C5 PB8 (io), C6 PB6 (io), C7 PG14 (io), C8 PG11 (io), C9 PD4 (io), C10 PC12 (io), C11 NC (in) hidden, C12 PA11 (io), D1 RCC_OSC_IN (in), D2 VSS (power), D3 VDD (power), D4 PF2 (io), D5 BOOT0 (in), D6 PB7 (io), D7 PG13 (io), D8 PG10 (io), D9 PD3 (io), D10 PD1 (io), D11 PA10 (io), D12 PA9 (io), E1 RCC_OSC_OUT (in), E2 PF3 (io), E3 PF4 (io), E4 PF5 (io), E5 VSS (power), E6 VSS (power), E7 VSS (power), E8 PG9 (io), E9 PD2 (io), E10 PD0 (io), E11 PC9 (io), E12 PA8 (io), F1 NRST (in), F2 PF7 (io), F3 PF6 (io), F4 VDD (power), F5 VDD (power), F6 VDD (power), F7 VDD (power), F8 VDD (power), F9 VDD (power), F10 VDD (power), F11 PC8 (io), F12 PC7 (io), G1 PF10 (io), G2 PF9 (io), G3 PF8 (io), G4 VSS (power), G5 VDD (power), G6 VDD (power), G7 VDD (power), G8 VSS (power), G9 VSS (power), G10 VSS (power), G11 PG8 (io), G12 PC6 (io), H1 PC0 (io), H2 PC1 (io), H3 PC2 (io), H4 PC3 (io), H5 VSS (power), H6 VSS (power), H7 VSS (power), H8 PE11 (io), H9 PD11 (io), H10 PG7 (io), H11 PG6 (io), H12 PG5 (io), J1 VSSA (power), J2 PA0 (io), J3 PA4 (io), J4 PC4 (io), J5 PB2 (io), J6 PG1 (io), J7 PE10 (io), J8 PE12 (io), J9 PD10 (io), J10 PG4 (io), J11 PG3 (io), J12 PG2 (io), K1 VREF- (power), K2 PA1 (io), K3 PA5 (io), K4 PC5 (io), K5 PF13 (io), K6 PG0 (io), K7 PE9 (io), K8 PE13 (io), K9 PD9 (io), K10 PD13 (io), K11 PD14 (io), K12 PD15 (io), L1 VREF+ (power), L2 PA2 (io), L3 PA6 (io), L4 PB0 (io), L5 PF12 (io), L6 PF15 (io), L7 PE8 (io), L8 PE14 (io), L9 PD8 (io), L10 PD12 (io), L11 PB14 (io), L12 PB15 (io), M1 VDDA (power), M2 PA3 (io), M3 PA7 (io), M4 PB1 (io), M5 PF11 (io), M6 PF14 (io), M7 PE7 (io), M8 PE15 (io), M9 PB10 (io), M10 PB11 (io), M11 PB12 (io), M12 PB13 (io)

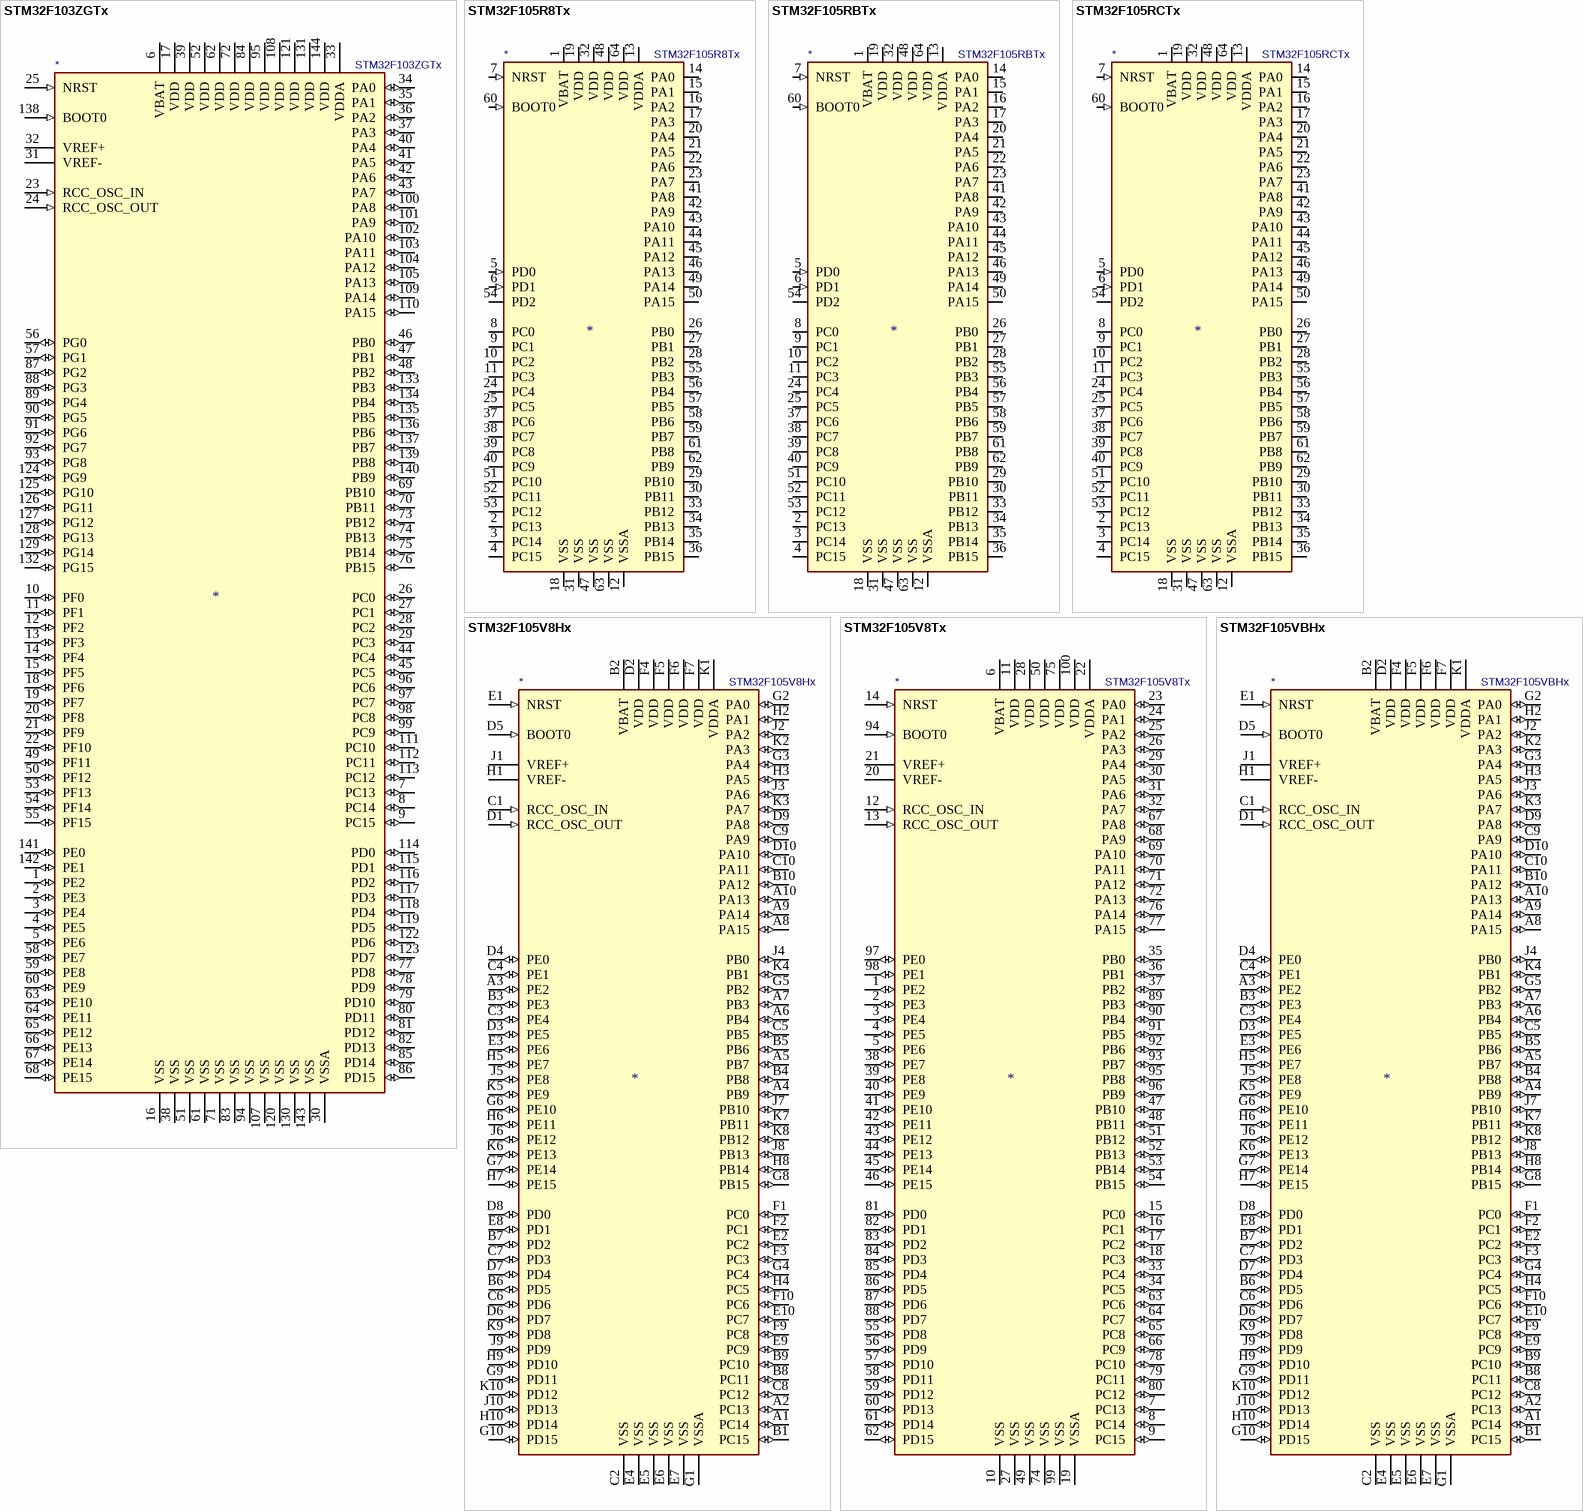
[diagram p18: symbols STM32F103ZGTx to STM32F105VBHx]

## STM32F103ZGTx
designator *  value STM32F103ZGTx
ki_keywords: ARM Cortex-M3 STM32F1 STM32F103; ki_description: ARM Cortex-M3 MCU, 1024KB flash, 96KB RAM, 72MHz, 2-3.6V, 114 GPIO, LQFP-144; ki_fp_filters: LQFP*20x20mm*P0.5mm*; Footprint: Package_QFP:LQFP-144_20x20mm_P0.5mm; Supplier: http://www.st.com/st-web-ui/static/active/en/resource/technical/document/datasheet/CD00253742.pdf
footprint LQFP-144_20x20mm_P0.5mm
pins: 1 PE2 (io), 2 PE3 (io), 3 PE4 (io), 4 PE5 (io), 5 PE6 (io), 6 VBAT (power), 7 PC13 (io), 8 PC14 (io), 9 PC15 (io), 10 PF0 (io), 11 PF1 (io), 12 PF2 (io), 13 PF3 (io), 14 PF4 (io), 15 PF5 (io), 16 VSS (power), 17 VDD (power), 18 PF6 (io), 19 PF7 (io), 20 PF8 (io), 21 PF9 (io), 22 PF10 (io), 23 RCC_OSC_IN (in), 24 RCC_OSC_OUT (in), 25 NRST (in), 26 PC0 (io), 27 PC1 (io), 28 PC2 (io), 29 PC3 (io), 30 VSSA (power), 31 VREF- (power), 32 VREF+ (power), 33 VDDA (power), 34 PA0 (io), 35 PA1 (io), 36 PA2 (io), 37 PA3 (io), 38 VSS (power), 39 VDD (power), 40 PA4 (io), 41 PA5 (io), 42 PA6 (io), 43 PA7 (io), 44 PC4 (io), 45 PC5 (io), 46 PB0 (io), 47 PB1 (io), 48 PB2 (io), 49 PF11 (io), 50 PF12 (io), 51 VSS (power), 52 VDD (power), 53 PF13 (io), 54 PF14 (io), 55 PF15 (io), 56 PG0 (io), 57 PG1 (io), 58 PE7 (io), 59 PE8 (io), 60 PE9 (io), 61 VSS (power), 62 VDD (power), 63 PE10 (io), 64 PE11 (io), 65 PE12 (io), 66 PE13 (io), 67 PE14 (io), 68 PE15 (io), 69 PB10 (io), 70 PB11 (io), 71 VSS (power), 72 VDD (power), 73 PB12 (io), 74 PB13 (io), 75 PB14 (io), 76 PB15 (io), 77 PD8 (io), 78 PD9 (io), 79 PD10 (io), 80 PD11 (io), 81 PD12 (io), 82 PD13 (io), 83 VSS (power), 84 VDD (power), 85 PD14 (io), 86 PD15 (io), 87 PG2 (io), 88 PG3 (io), 89 PG4 (io), 90 PG5 (io), 91 PG6 (io), 92 PG7 (io), 93 PG8 (io), 94 VSS (power), 95 VDD (power), 96 PC6 (io), 97 PC7 (io), 98 PC8 (io), 99 PC9 (io), 100 PA8 (io), 101 PA9 (io), 102 PA10 (io), 103 PA11 (io), 104 PA12 (io), 105 PA13 (io), 106 NC (in) hidden, 107 VSS (power), 108 VDD (power), 109 PA14 (io), 110 PA15 (io), 111 PC10 (io), 112 PC11 (io), 113 PC12 (io), 114 PD0 (io), 115 PD1 (io), 116 PD2 (io), 117 PD3 (io), 118 PD4 (io), 119 PD5 (io), 120 VSS (power), 121 VDD (power), 122 PD6 (io), 123 PD7 (io), 124 PG9 (io), 125 PG10 (io), 126 PG11 (io), 127 PG12 (io), 128 PG13 (io), 129 PG14 (io), 130 VSS (power), 131 VDD (power), 132 PG15 (io), 133 PB3 (io), 134 PB4 (io), 135 PB5 (io), 136 PB6 (io), 137 PB7 (io), 138 BOOT0 (in), 139 PB8 (io), 140 PB9 (io), 141 PE0 (io), 142 PE1 (io), 143 VSS (power), 144 VDD (power)

## STM32F105R8Tx
designator *  value STM32F105R8Tx
ki_keywords: ARM Cortex-M3 STM32F1 STM32F105/107; ki_description: ARM Cortex-M3 MCU, 64KB flash, 64KB RAM, 72MHz, 2-3.6V, 51 GPIO, LQFP-64; ki_fp_filters: LQFP*10x10mm*P0.5mm*; Footprint: Package_QFP:LQFP-64_10x10mm_P0.5mm; Supplier: http://www.st.com/st-web-ui/static/active/en/resource/technical/document/datasheet/CD00220364.pdf
footprint LQFP-64_10x10mm_P0.5mm
pins: 1 VBAT (power), 2 PC13 (io), 3 PC14 (io), 4 PC15 (io), 5 PD0 (in), 6 PD1 (in), 7 NRST (in), 8 PC0 (io), 9 PC1 (io), 10 PC2 (io), 11 PC3 (io), 12 VSSA (power), 13 VDDA (power), 14 PA0 (io), 15 PA1 (io), 16 PA2 (io), 17 PA3 (io), 18 VSS (power), 19 VDD (power), 20 PA4 (io), 21 PA5 (io), 22 PA6 (io), 23 PA7 (io), 24 PC4 (io), 25 PC5 (io), 26 PB0 (io), 27 PB1 (io), 28 PB2 (io), 29 PB10 (io), 30 PB11 (io), 31 VSS (power), 32 VDD (power), 33 PB12 (io), 34 PB13 (io), 35 PB14 (io), 36 PB15 (io), 37 PC6 (io), 38 PC7 (io), 39 PC8 (io), 40 PC9 (io), 41 PA8 (io), 42 PA9 (io), 43 PA10 (io), 44 PA11 (io), 45 PA12 (io), 46 PA13 (io), 47 VSS (power), 48 VDD (power), 49 PA14 (io), 50 PA15 (io), 51 PC10 (io), 52 PC11 (io), 53 PC12 (io), 54 PD2 (io), 55 PB3 (io), 56 PB4 (io), 57 PB5 (io), 58 PB6 (io), 59 PB7 (io), 60 BOOT0 (in), 61 PB8 (io), 62 PB9 (io), 63 VSS (power), 64 VDD (power)

## STM32F105RBTx
designator *  value STM32F105RBTx
ki_keywords: ARM Cortex-M3 STM32F1 STM32F105/107; ki_description: ARM Cortex-M3 MCU, 128KB flash, 64KB RAM, 72MHz, 2-3.6V, 51 GPIO, LQFP-64; ki_fp_filters: LQFP*10x10mm*P0.5mm*; Footprint: Package_QFP:LQFP-64_10x10mm_P0.5mm; Supplier: http://www.st.com/st-web-ui/static/active/en/resource/technical/document/datasheet/CD00220364.pdf
footprint LQFP-64_10x10mm_P0.5mm
pins: 1 VBAT (power), 2 PC13 (io), 3 PC14 (io), 4 PC15 (io), 5 PD0 (in), 6 PD1 (in), 7 NRST (in), 8 PC0 (io), 9 PC1 (io), 10 PC2 (io), 11 PC3 (io), 12 VSSA (power), 13 VDDA (power), 14 PA0 (io), 15 PA1 (io), 16 PA2 (io), 17 PA3 (io), 18 VSS (power), 19 VDD (power), 20 PA4 (io), 21 PA5 (io), 22 PA6 (io), 23 PA7 (io), 24 PC4 (io), 25 PC5 (io), 26 PB0 (io), 27 PB1 (io), 28 PB2 (io), 29 PB10 (io), 30 PB11 (io), 31 VSS (power), 32 VDD (power), 33 PB12 (io), 34 PB13 (io), 35 PB14 (io), 36 PB15 (io), 37 PC6 (io), 38 PC7 (io), 39 PC8 (io), 40 PC9 (io), 41 PA8 (io), 42 PA9 (io), 43 PA10 (io), 44 PA11 (io), 45 PA12 (io), 46 PA13 (io), 47 VSS (power), 48 VDD (power), 49 PA14 (io), 50 PA15 (io), 51 PC10 (io), 52 PC11 (io), 53 PC12 (io), 54 PD2 (io), 55 PB3 (io), 56 PB4 (io), 57 PB5 (io), 58 PB6 (io), 59 PB7 (io), 60 BOOT0 (in), 61 PB8 (io), 62 PB9 (io), 63 VSS (power), 64 VDD (power)

## STM32F105RCTx
designator *  value STM32F105RCTx
ki_keywords: ARM Cortex-M3 STM32F1 STM32F105/107; ki_description: ARM Cortex-M3 MCU, 256KB flash, 64KB RAM, 72MHz, 2-3.6V, 51 GPIO, LQFP-64; ki_fp_filters: LQFP*10x10mm*P0.5mm*; Footprint: Package_QFP:LQFP-64_10x10mm_P0.5mm; Supplier: http://www.st.com/st-web-ui/static/active/en/resource/technical/document/datasheet/CD00220364.pdf
footprint LQFP-64_10x10mm_P0.5mm
pins: 1 VBAT (power), 2 PC13 (io), 3 PC14 (io), 4 PC15 (io), 5 PD0 (in), 6 PD1 (in), 7 NRST (in), 8 PC0 (io), 9 PC1 (io), 10 PC2 (io), 11 PC3 (io), 12 VSSA (power), 13 VDDA (power), 14 PA0 (io), 15 PA1 (io), 16 PA2 (io), 17 PA3 (io), 18 VSS (power), 19 VDD (power), 20 PA4 (io), 21 PA5 (io), 22 PA6 (io), 23 PA7 (io), 24 PC4 (io), 25 PC5 (io), 26 PB0 (io), 27 PB1 (io), 28 PB2 (io), 29 PB10 (io), 30 PB11 (io), 31 VSS (power), 32 VDD (power), 33 PB12 (io), 34 PB13 (io), 35 PB14 (io), 36 PB15 (io), 37 PC6 (io), 38 PC7 (io), 39 PC8 (io), 40 PC9 (io), 41 PA8 (io), 42 PA9 (io), 43 PA10 (io), 44 PA11 (io), 45 PA12 (io), 46 PA13 (io), 47 VSS (power), 48 VDD (power), 49 PA14 (io), 50 PA15 (io), 51 PC10 (io), 52 PC11 (io), 53 PC12 (io), 54 PD2 (io), 55 PB3 (io), 56 PB4 (io), 57 PB5 (io), 58 PB6 (io), 59 PB7 (io), 60 BOOT0 (in), 61 PB8 (io), 62 PB9 (io), 63 VSS (power), 64 VDD (power)

## STM32F105V8Hx
designator *  value STM32F105V8Hx
ki_keywords: ARM Cortex-M3 STM32F1 STM32F105/107; ki_description: ARM Cortex-M3 MCU, 64KB flash, 64KB RAM, 72MHz, 2-3.6V, 82 GPIO, LFBGA-100; ki_fp_filters: LFBGA*10x10mm*Layout10x10*P0.8mm*; Footprint: Package_BGA:LFBGA-100_10x10mm_Layout10x10_P0.8mm; Supplier: http://www.st.com/st-web-ui/static/active/en/resource/technical/document/datasheet/CD00220364.pdf
footprint LFBGA-100_10x10mm_Layout10x10_P0.8mm
pins: A1 PC14 (io), A2 PC13 (io), A3 PE2 (io), A4 PB9 (io), A5 PB7 (io), A6 PB4 (io), A7 PB3 (io), A8 PA15 (io), A9 PA14 (io), A10 PA13 (io), B1 PC15 (io), B2 VBAT (power), B3 PE3 (io), B4 PB8 (io), B5 PB6 (io), B6 PD5 (io), B7 PD2 (io), B8 PC11 (io), B9 PC10 (io), B10 PA12 (io), C1 RCC_OSC_IN (in), C2 VSS (power), C3 PE4 (io), C4 PE1 (io), C5 PB5 (io), C6 PD6 (io), C7 PD3 (io), C8 PC12 (io), C9 PA9 (io), C10 PA11 (io), D1 RCC_OSC_OUT (in), D2 VDD (power), D3 PE5 (io), D4 PE0 (io), D5 BOOT0 (in), D6 PD7 (io), D7 PD4 (io), D8 PD0 (io), D9 PA8 (io), D10 PA10 (io), E1 NRST (in), E2 PC2 (io), E3 PE6 (io), E4 VSS (power), E5 VSS (power), E6 VSS (power), E7 VSS (power), E8 PD1 (io), E9 PC9 (io), E10 PC7 (io), F1 PC0 (io), F2 PC1 (io), F3 PC3 (io), F4 VDD (power), F5 VDD (power), F6 VDD (power), F7 VDD (power), F8 NC (in) hidden, F9 PC8 (io), F10 PC6 (io), G1 VSSA (power), G2 PA0 (io), G3 PA4 (io), G4 PC4 (io), G5 PB2 (io), G6 PE10 (io), G7 PE14 (io), G8 PB15 (io), G9 PD11 (io), G10 PD15 (io), H1 VREF- (power), H2 PA1 (io), H3 PA5 (io), H4 PC5 (io), H5 PE7 (io), H6 PE11 (io), H7 PE15 (io), H8 PB14 (io), H9 PD10 (io), H10 PD14 (io), J1 VREF+ (power), J2 PA2 (io), J3 PA6 (io), J4 PB0 (io), J5 PE8 (io), J6 PE12 (io), J7 PB10 (io), J8 PB13 (io), J9 PD9 (io), J10 PD13 (io), K1 VDDA (power), K2 PA3 (io), K3 PA7 (io), K4 PB1 (io), K5 PE9 (io), K6 PE13 (io), K7 PB11 (io), K8 PB12 (io), K9 PD8 (io), K10 PD12 (io)

## STM32F105V8Tx
designator *  value STM32F105V8Tx
ki_keywords: ARM Cortex-M3 STM32F1 STM32F105/107; ki_description: ARM Cortex-M3 MCU, 64KB flash, 64KB RAM, 72MHz, 2-3.6V, 82 GPIO, LQFP-100; ki_fp_filters: LQFP*14x14mm*P0.5mm*; Footprint: Package_QFP:LQFP-100_14x14mm_P0.5mm; Supplier: http://www.st.com/st-web-ui/static/active/en/resource/technical/document/datasheet/CD00220364.pdf
footprint LQFP-100_14x14mm_P0.5mm
pins: 1 PE2 (io), 2 PE3 (io), 3 PE4 (io), 4 PE5 (io), 5 PE6 (io), 6 VBAT (power), 7 PC13 (io), 8 PC14 (io), 9 PC15 (io), 10 VSS (power), 11 VDD (power), 12 RCC_OSC_IN (in), 13 RCC_OSC_OUT (in), 14 NRST (in), 15 PC0 (io), 16 PC1 (io), 17 PC2 (io), 18 PC3 (io), 19 VSSA (power), 20 VREF- (power), 21 VREF+ (power), 22 VDDA (power), 23 PA0 (io), 24 PA1 (io), 25 PA2 (io), 26 PA3 (io), 27 VSS (power), 28 VDD (power), 29 PA4 (io), 30 PA5 (io), 31 PA6 (io), 32 PA7 (io), 33 PC4 (io), 34 PC5 (io), 35 PB0 (io), 36 PB1 (io), 37 PB2 (io), 38 PE7 (io), 39 PE8 (io), 40 PE9 (io), 41 PE10 (io), 42 PE11 (io), 43 PE12 (io), 44 PE13 (io), 45 PE14 (io), 46 PE15 (io), 47 PB10 (io), 48 PB11 (io), 49 VSS (power), 50 VDD (power), 51 PB12 (io), 52 PB13 (io), 53 PB14 (io), 54 PB15 (io), 55 PD8 (io), 56 PD9 (io), 57 PD10 (io), 58 PD11 (io), 59 PD12 (io), 60 PD13 (io), 61 PD14 (io), 62 PD15 (io), 63 PC6 (io), 64 PC7 (io), 65 PC8 (io), 66 PC9 (io), 67 PA8 (io), 68 PA9 (io), 69 PA10 (io), 70 PA11 (io), 71 PA12 (io), 72 PA13 (io), 73 NC (in) hidden, 74 VSS (power), 75 VDD (power), 76 PA14 (io), 77 PA15 (io), 78 PC10 (io), 79 PC11 (io), 80 PC12 (io), 81 PD0 (io), 82 PD1 (io), 83 PD2 (io), 84 PD3 (io), 85 PD4 (io), 86 PD5 (io), 87 PD6 (io), 88 PD7 (io), 89 PB3 (io), 90 PB4 (io), 91 PB5 (io), 92 PB6 (io), 93 PB7 (io), 94 BOOT0 (in), 95 PB8 (io), 96 PB9 (io), 97 PE0 (io), 98 PE1 (io), 99 VSS (power), 100 VDD (power)

## STM32F105VBHx
designator *  value STM32F105VBHx
ki_keywords: ARM Cortex-M3 STM32F1 STM32F105/107; ki_description: ARM Cortex-M3 MCU, 128KB flash, 64KB RAM, 72MHz, 2-3.6V, 82 GPIO, LFBGA-100; ki_fp_filters: LFBGA*10x10mm*Layout10x10*P0.8mm*; Footprint: Package_BGA:LFBGA-100_10x10mm_Layout10x10_P0.8mm; Supplier: http://www.st.com/st-web-ui/static/active/en/resource/technical/document/datasheet/CD00220364.pdf
footprint LFBGA-100_10x10mm_Layout10x10_P0.8mm
pins: A1 PC14 (io), A2 PC13 (io), A3 PE2 (io), A4 PB9 (io), A5 PB7 (io), A6 PB4 (io), A7 PB3 (io), A8 PA15 (io), A9 PA14 (io), A10 PA13 (io), B1 PC15 (io), B2 VBAT (power), B3 PE3 (io), B4 PB8 (io), B5 PB6 (io), B6 PD5 (io), B7 PD2 (io), B8 PC11 (io), B9 PC10 (io), B10 PA12 (io), C1 RCC_OSC_IN (in), C2 VSS (power), C3 PE4 (io), C4 PE1 (io), C5 PB5 (io), C6 PD6 (io), C7 PD3 (io), C8 PC12 (io), C9 PA9 (io), C10 PA11 (io), D1 RCC_OSC_OUT (in), D2 VDD (power), D3 PE5 (io), D4 PE0 (io), D5 BOOT0 (in), D6 PD7 (io), D7 PD4 (io), D8 PD0 (io), D9 PA8 (io), D10 PA10 (io), E1 NRST (in), E2 PC2 (io), E3 PE6 (io), E4 VSS (power), E5 VSS (power), E6 VSS (power), E7 VSS (power), E8 PD1 (io), E9 PC9 (io), E10 PC7 (io), F1 PC0 (io), F2 PC1 (io), F3 PC3 (io), F4 VDD (power), F5 VDD (power), F6 VDD (power), F7 VDD (power), F8 NC (in) hidden, F9 PC8 (io), F10 PC6 (io), G1 VSSA (power), G2 PA0 (io), G3 PA4 (io), G4 PC4 (io), G5 PB2 (io), G6 PE10 (io), G7 PE14 (io), G8 PB15 (io), G9 PD11 (io), G10 PD15 (io), H1 VREF- (power), H2 PA1 (io), H3 PA5 (io), H4 PC5 (io), H5 PE7 (io), H6 PE11 (io), H7 PE15 (io), H8 PB14 (io), H9 PD10 (io), H10 PD14 (io), J1 VREF+ (power), J2 PA2 (io), J3 PA6 (io), J4 PB0 (io), J5 PE8 (io), J6 PE12 (io), J7 PB10 (io), J8 PB13 (io), J9 PD9 (io), J10 PD13 (io), K1 VDDA (power), K2 PA3 (io), K3 PA7 (io), K4 PB1 (io), K5 PE9 (io), K6 PE13 (io), K7 PB11 (io), K8 PB12 (io), K9 PD8 (io), K10 PD12 (io)

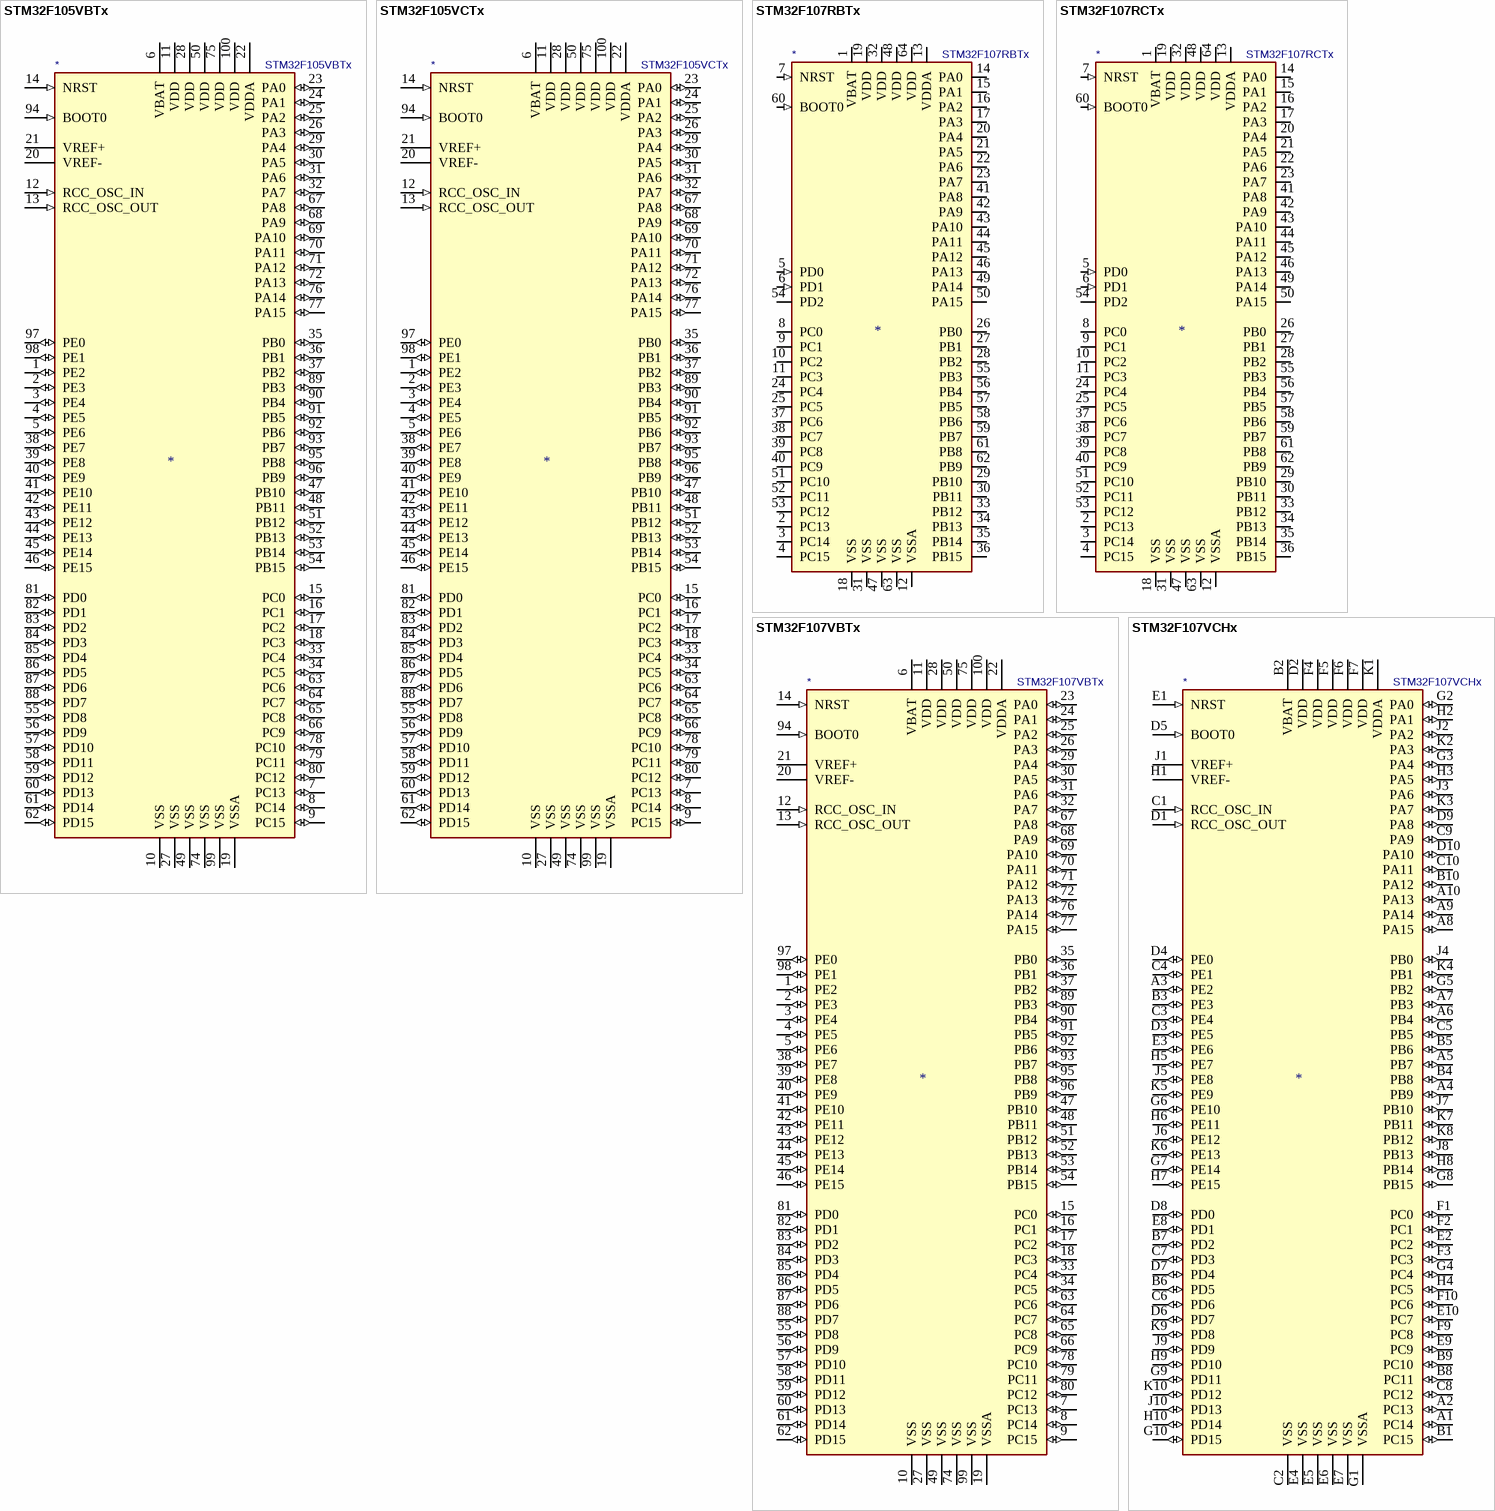
[diagram p19: symbols STM32F105VBTx to STM32F107VCHx]

## STM32F105VBTx
designator *  value STM32F105VBTx
ki_keywords: ARM Cortex-M3 STM32F1 STM32F105/107; ki_description: ARM Cortex-M3 MCU, 128KB flash, 64KB RAM, 72MHz, 2-3.6V, 82 GPIO, LQFP-100; ki_fp_filters: LQFP*14x14mm*P0.5mm*; Footprint: Package_QFP:LQFP-100_14x14mm_P0.5mm; Supplier: http://www.st.com/st-web-ui/static/active/en/resource/technical/document/datasheet/CD00220364.pdf
footprint LQFP-100_14x14mm_P0.5mm
pins: 1 PE2 (io), 2 PE3 (io), 3 PE4 (io), 4 PE5 (io), 5 PE6 (io), 6 VBAT (power), 7 PC13 (io), 8 PC14 (io), 9 PC15 (io), 10 VSS (power), 11 VDD (power), 12 RCC_OSC_IN (in), 13 RCC_OSC_OUT (in), 14 NRST (in), 15 PC0 (io), 16 PC1 (io), 17 PC2 (io), 18 PC3 (io), 19 VSSA (power), 20 VREF- (power), 21 VREF+ (power), 22 VDDA (power), 23 PA0 (io), 24 PA1 (io), 25 PA2 (io), 26 PA3 (io), 27 VSS (power), 28 VDD (power), 29 PA4 (io), 30 PA5 (io), 31 PA6 (io), 32 PA7 (io), 33 PC4 (io), 34 PC5 (io), 35 PB0 (io), 36 PB1 (io), 37 PB2 (io), 38 PE7 (io), 39 PE8 (io), 40 PE9 (io), 41 PE10 (io), 42 PE11 (io), 43 PE12 (io), 44 PE13 (io), 45 PE14 (io), 46 PE15 (io), 47 PB10 (io), 48 PB11 (io), 49 VSS (power), 50 VDD (power), 51 PB12 (io), 52 PB13 (io), 53 PB14 (io), 54 PB15 (io), 55 PD8 (io), 56 PD9 (io), 57 PD10 (io), 58 PD11 (io), 59 PD12 (io), 60 PD13 (io), 61 PD14 (io), 62 PD15 (io), 63 PC6 (io), 64 PC7 (io), 65 PC8 (io), 66 PC9 (io), 67 PA8 (io), 68 PA9 (io), 69 PA10 (io), 70 PA11 (io), 71 PA12 (io), 72 PA13 (io), 73 NC (in) hidden, 74 VSS (power), 75 VDD (power), 76 PA14 (io), 77 PA15 (io), 78 PC10 (io), 79 PC11 (io), 80 PC12 (io), 81 PD0 (io), 82 PD1 (io), 83 PD2 (io), 84 PD3 (io), 85 PD4 (io), 86 PD5 (io), 87 PD6 (io), 88 PD7 (io), 89 PB3 (io), 90 PB4 (io), 91 PB5 (io), 92 PB6 (io), 93 PB7 (io), 94 BOOT0 (in), 95 PB8 (io), 96 PB9 (io), 97 PE0 (io), 98 PE1 (io), 99 VSS (power), 100 VDD (power)

## STM32F105VCTx
designator *  value STM32F105VCTx
ki_keywords: ARM Cortex-M3 STM32F1 STM32F105/107; ki_description: ARM Cortex-M3 MCU, 256KB flash, 64KB RAM, 72MHz, 2-3.6V, 82 GPIO, LQFP-100; ki_fp_filters: LQFP*14x14mm*P0.5mm*; Footprint: Package_QFP:LQFP-100_14x14mm_P0.5mm; Supplier: http://www.st.com/st-web-ui/static/active/en/resource/technical/document/datasheet/CD00220364.pdf
footprint LQFP-100_14x14mm_P0.5mm
pins: 1 PE2 (io), 2 PE3 (io), 3 PE4 (io), 4 PE5 (io), 5 PE6 (io), 6 VBAT (power), 7 PC13 (io), 8 PC14 (io), 9 PC15 (io), 10 VSS (power), 11 VDD (power), 12 RCC_OSC_IN (in), 13 RCC_OSC_OUT (in), 14 NRST (in), 15 PC0 (io), 16 PC1 (io), 17 PC2 (io), 18 PC3 (io), 19 VSSA (power), 20 VREF- (power), 21 VREF+ (power), 22 VDDA (power), 23 PA0 (io), 24 PA1 (io), 25 PA2 (io), 26 PA3 (io), 27 VSS (power), 28 VDD (power), 29 PA4 (io), 30 PA5 (io), 31 PA6 (io), 32 PA7 (io), 33 PC4 (io), 34 PC5 (io), 35 PB0 (io), 36 PB1 (io), 37 PB2 (io), 38 PE7 (io), 39 PE8 (io), 40 PE9 (io), 41 PE10 (io), 42 PE11 (io), 43 PE12 (io), 44 PE13 (io), 45 PE14 (io), 46 PE15 (io), 47 PB10 (io), 48 PB11 (io), 49 VSS (power), 50 VDD (power), 51 PB12 (io), 52 PB13 (io), 53 PB14 (io), 54 PB15 (io), 55 PD8 (io), 56 PD9 (io), 57 PD10 (io), 58 PD11 (io), 59 PD12 (io), 60 PD13 (io), 61 PD14 (io), 62 PD15 (io), 63 PC6 (io), 64 PC7 (io), 65 PC8 (io), 66 PC9 (io), 67 PA8 (io), 68 PA9 (io), 69 PA10 (io), 70 PA11 (io), 71 PA12 (io), 72 PA13 (io), 73 NC (in) hidden, 74 VSS (power), 75 VDD (power), 76 PA14 (io), 77 PA15 (io), 78 PC10 (io), 79 PC11 (io), 80 PC12 (io), 81 PD0 (io), 82 PD1 (io), 83 PD2 (io), 84 PD3 (io), 85 PD4 (io), 86 PD5 (io), 87 PD6 (io), 88 PD7 (io), 89 PB3 (io), 90 PB4 (io), 91 PB5 (io), 92 PB6 (io), 93 PB7 (io), 94 BOOT0 (in), 95 PB8 (io), 96 PB9 (io), 97 PE0 (io), 98 PE1 (io), 99 VSS (power), 100 VDD (power)

## STM32F107RBTx
designator *  value STM32F107RBTx
ki_keywords: ARM Cortex-M3 STM32F1 STM32F105/107; ki_description: ARM Cortex-M3 MCU, 128KB flash, 64KB RAM, 72MHz, 2-3.6V, 51 GPIO, LQFP-64; ki_fp_filters: LQFP*10x10mm*P0.5mm*; Footprint: Package_QFP:LQFP-64_10x10mm_P0.5mm; Supplier: http://www.st.com/st-web-ui/static/active/en/resource/technical/document/datasheet/CD00220364.pdf
footprint LQFP-64_10x10mm_P0.5mm
pins: 1 VBAT (power), 2 PC13 (io), 3 PC14 (io), 4 PC15 (io), 5 PD0 (in), 6 PD1 (in), 7 NRST (in), 8 PC0 (io), 9 PC1 (io), 10 PC2 (io), 11 PC3 (io), 12 VSSA (power), 13 VDDA (power), 14 PA0 (io), 15 PA1 (io), 16 PA2 (io), 17 PA3 (io), 18 VSS (power), 19 VDD (power), 20 PA4 (io), 21 PA5 (io), 22 PA6 (io), 23 PA7 (io), 24 PC4 (io), 25 PC5 (io), 26 PB0 (io), 27 PB1 (io), 28 PB2 (io), 29 PB10 (io), 30 PB11 (io), 31 VSS (power), 32 VDD (power), 33 PB12 (io), 34 PB13 (io), 35 PB14 (io), 36 PB15 (io), 37 PC6 (io), 38 PC7 (io), 39 PC8 (io), 40 PC9 (io), 41 PA8 (io), 42 PA9 (io), 43 PA10 (io), 44 PA11 (io), 45 PA12 (io), 46 PA13 (io), 47 VSS (power), 48 VDD (power), 49 PA14 (io), 50 PA15 (io), 51 PC10 (io), 52 PC11 (io), 53 PC12 (io), 54 PD2 (io), 55 PB3 (io), 56 PB4 (io), 57 PB5 (io), 58 PB6 (io), 59 PB7 (io), 60 BOOT0 (in), 61 PB8 (io), 62 PB9 (io), 63 VSS (power), 64 VDD (power)

## STM32F107RCTx
designator *  value STM32F107RCTx
ki_keywords: ARM Cortex-M3 STM32F1 STM32F105/107; ki_description: ARM Cortex-M3 MCU, 256KB flash, 64KB RAM, 72MHz, 2-3.6V, 51 GPIO, LQFP-64; ki_fp_filters: LQFP*10x10mm*P0.5mm*; Footprint: Package_QFP:LQFP-64_10x10mm_P0.5mm; Supplier: http://www.st.com/st-web-ui/static/active/en/resource/technical/document/datasheet/CD00220364.pdf
footprint LQFP-64_10x10mm_P0.5mm
pins: 1 VBAT (power), 2 PC13 (io), 3 PC14 (io), 4 PC15 (io), 5 PD0 (in), 6 PD1 (in), 7 NRST (in), 8 PC0 (io), 9 PC1 (io), 10 PC2 (io), 11 PC3 (io), 12 VSSA (power), 13 VDDA (power), 14 PA0 (io), 15 PA1 (io), 16 PA2 (io), 17 PA3 (io), 18 VSS (power), 19 VDD (power), 20 PA4 (io), 21 PA5 (io), 22 PA6 (io), 23 PA7 (io), 24 PC4 (io), 25 PC5 (io), 26 PB0 (io), 27 PB1 (io), 28 PB2 (io), 29 PB10 (io), 30 PB11 (io), 31 VSS (power), 32 VDD (power), 33 PB12 (io), 34 PB13 (io), 35 PB14 (io), 36 PB15 (io), 37 PC6 (io), 38 PC7 (io), 39 PC8 (io), 40 PC9 (io), 41 PA8 (io), 42 PA9 (io), 43 PA10 (io), 44 PA11 (io), 45 PA12 (io), 46 PA13 (io), 47 VSS (power), 48 VDD (power), 49 PA14 (io), 50 PA15 (io), 51 PC10 (io), 52 PC11 (io), 53 PC12 (io), 54 PD2 (io), 55 PB3 (io), 56 PB4 (io), 57 PB5 (io), 58 PB6 (io), 59 PB7 (io), 60 BOOT0 (in), 61 PB8 (io), 62 PB9 (io), 63 VSS (power), 64 VDD (power)

## STM32F107VBTx
designator *  value STM32F107VBTx
ki_keywords: ARM Cortex-M3 STM32F1 STM32F105/107; ki_description: ARM Cortex-M3 MCU, 128KB flash, 64KB RAM, 72MHz, 2-3.6V, 82 GPIO, LQFP-100; ki_fp_filters: LQFP*14x14mm*P0.5mm*; Footprint: Package_QFP:LQFP-100_14x14mm_P0.5mm; Supplier: http://www.st.com/st-web-ui/static/active/en/resource/technical/document/datasheet/CD00220364.pdf
footprint LQFP-100_14x14mm_P0.5mm
pins: 1 PE2 (io), 2 PE3 (io), 3 PE4 (io), 4 PE5 (io), 5 PE6 (io), 6 VBAT (power), 7 PC13 (io), 8 PC14 (io), 9 PC15 (io), 10 VSS (power), 11 VDD (power), 12 RCC_OSC_IN (in), 13 RCC_OSC_OUT (in), 14 NRST (in), 15 PC0 (io), 16 PC1 (io), 17 PC2 (io), 18 PC3 (io), 19 VSSA (power), 20 VREF- (power), 21 VREF+ (power), 22 VDDA (power), 23 PA0 (io), 24 PA1 (io), 25 PA2 (io), 26 PA3 (io), 27 VSS (power), 28 VDD (power), 29 PA4 (io), 30 PA5 (io), 31 PA6 (io), 32 PA7 (io), 33 PC4 (io), 34 PC5 (io), 35 PB0 (io), 36 PB1 (io), 37 PB2 (io), 38 PE7 (io), 39 PE8 (io), 40 PE9 (io), 41 PE10 (io), 42 PE11 (io), 43 PE12 (io), 44 PE13 (io), 45 PE14 (io), 46 PE15 (io), 47 PB10 (io), 48 PB11 (io), 49 VSS (power), 50 VDD (power), 51 PB12 (io), 52 PB13 (io), 53 PB14 (io), 54 PB15 (io), 55 PD8 (io), 56 PD9 (io), 57 PD10 (io), 58 PD11 (io), 59 PD12 (io), 60 PD13 (io), 61 PD14 (io), 62 PD15 (io), 63 PC6 (io), 64 PC7 (io), 65 PC8 (io), 66 PC9 (io), 67 PA8 (io), 68 PA9 (io), 69 PA10 (io), 70 PA11 (io), 71 PA12 (io), 72 PA13 (io), 73 NC (in) hidden, 74 VSS (power), 75 VDD (power), 76 PA14 (io), 77 PA15 (io), 78 PC10 (io), 79 PC11 (io), 80 PC12 (io), 81 PD0 (io), 82 PD1 (io), 83 PD2 (io), 84 PD3 (io), 85 PD4 (io), 86 PD5 (io), 87 PD6 (io), 88 PD7 (io), 89 PB3 (io), 90 PB4 (io), 91 PB5 (io), 92 PB6 (io), 93 PB7 (io), 94 BOOT0 (in), 95 PB8 (io), 96 PB9 (io), 97 PE0 (io), 98 PE1 (io), 99 VSS (power), 100 VDD (power)

## STM32F107VCHx
designator *  value STM32F107VCHx
ki_keywords: ARM Cortex-M3 STM32F1 STM32F105/107; ki_description: ARM Cortex-M3 MCU, 256KB flash, 64KB RAM, 72MHz, 2-3.6V, 82 GPIO, LFBGA-100; ki_fp_filters: LFBGA*10x10mm*Layout10x10*P0.8mm*; Footprint: Package_BGA:LFBGA-100_10x10mm_Layout10x10_P0.8mm; Supplier: http://www.st.com/st-web-ui/static/active/en/resource/technical/document/datasheet/CD00220364.pdf
footprint LFBGA-100_10x10mm_Layout10x10_P0.8mm
pins: A1 PC14 (io), A2 PC13 (io), A3 PE2 (io), A4 PB9 (io), A5 PB7 (io), A6 PB4 (io), A7 PB3 (io), A8 PA15 (io), A9 PA14 (io), A10 PA13 (io), B1 PC15 (io), B2 VBAT (power), B3 PE3 (io), B4 PB8 (io), B5 PB6 (io), B6 PD5 (io), B7 PD2 (io), B8 PC11 (io), B9 PC10 (io), B10 PA12 (io), C1 RCC_OSC_IN (in), C2 VSS (power), C3 PE4 (io), C4 PE1 (io), C5 PB5 (io), C6 PD6 (io), C7 PD3 (io), C8 PC12 (io), C9 PA9 (io), C10 PA11 (io), D1 RCC_OSC_OUT (in), D2 VDD (power), D3 PE5 (io), D4 PE0 (io), D5 BOOT0 (in), D6 PD7 (io), D7 PD4 (io), D8 PD0 (io), D9 PA8 (io), D10 PA10 (io), E1 NRST (in), E2 PC2 (io), E3 PE6 (io), E4 VSS (power), E5 VSS (power), E6 VSS (power), E7 VSS (power), E8 PD1 (io), E9 PC9 (io), E10 PC7 (io), F1 PC0 (io), F2 PC1 (io), F3 PC3 (io), F4 VDD (power), F5 VDD (power), F6 VDD (power), F7 VDD (power), F8 NC (in) hidden, F9 PC8 (io), F10 PC6 (io), G1 VSSA (power), G2 PA0 (io), G3 PA4 (io), G4 PC4 (io), G5 PB2 (io), G6 PE10 (io), G7 PE14 (io), G8 PB15 (io), G9 PD11 (io), G10 PD15 (io), H1 VREF- (power), H2 PA1 (io), H3 PA5 (io), H4 PC5 (io), H5 PE7 (io), H6 PE11 (io), H7 PE15 (io), H8 PB14 (io), H9 PD10 (io), H10 PD14 (io), J1 VREF+ (power), J2 PA2 (io), J3 PA6 (io), J4 PB0 (io), J5 PE8 (io), J6 PE12 (io), J7 PB10 (io), J8 PB13 (io), J9 PD9 (io), J10 PD13 (io), K1 VDDA (power), K2 PA3 (io), K3 PA7 (io), K4 PB1 (io), K5 PE9 (io), K6 PE13 (io), K7 PB11 (io), K8 PB12 (io), K9 PD8 (io), K10 PD12 (io)

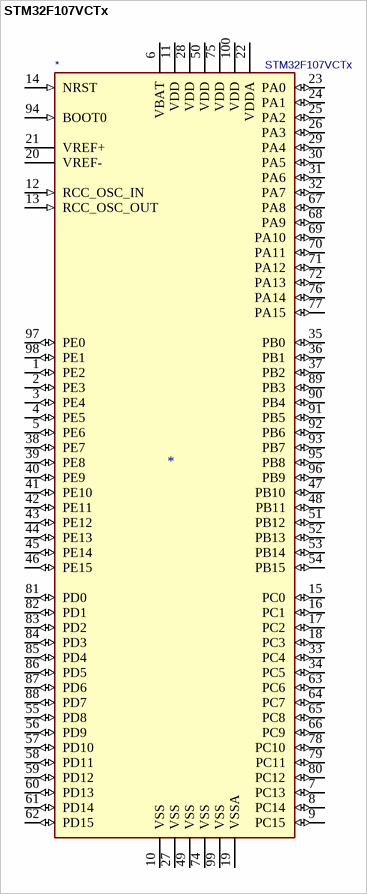
[diagram p20: symbol STM32F107VCTx]

## STM32F107VCTx
designator *  value STM32F107VCTx
ki_keywords: ARM Cortex-M3 STM32F1 STM32F105/107; ki_description: ARM Cortex-M3 MCU, 256KB flash, 64KB RAM, 72MHz, 2-3.6V, 82 GPIO, LQFP-100; ki_fp_filters: LQFP*14x14mm*P0.5mm*; Footprint: Package_QFP:LQFP-100_14x14mm_P0.5mm; Supplier: http://www.st.com/st-web-ui/static/active/en/resource/technical/document/datasheet/CD00220364.pdf
footprint LQFP-100_14x14mm_P0.5mm
pins: 1 PE2 (io), 2 PE3 (io), 3 PE4 (io), 4 PE5 (io), 5 PE6 (io), 6 VBAT (power), 7 PC13 (io), 8 PC14 (io), 9 PC15 (io), 10 VSS (power), 11 VDD (power), 12 RCC_OSC_IN (in), 13 RCC_OSC_OUT (in), 14 NRST (in), 15 PC0 (io), 16 PC1 (io), 17 PC2 (io), 18 PC3 (io), 19 VSSA (power), 20 VREF- (power), 21 VREF+ (power), 22 VDDA (power), 23 PA0 (io), 24 PA1 (io), 25 PA2 (io), 26 PA3 (io), 27 VSS (power), 28 VDD (power), 29 PA4 (io), 30 PA5 (io), 31 PA6 (io), 32 PA7 (io), 33 PC4 (io), 34 PC5 (io), 35 PB0 (io), 36 PB1 (io), 37 PB2 (io), 38 PE7 (io), 39 PE8 (io), 40 PE9 (io), 41 PE10 (io), 42 PE11 (io), 43 PE12 (io), 44 PE13 (io), 45 PE14 (io), 46 PE15 (io), 47 PB10 (io), 48 PB11 (io), 49 VSS (power), 50 VDD (power), 51 PB12 (io), 52 PB13 (io), 53 PB14 (io), 54 PB15 (io), 55 PD8 (io), 56 PD9 (io), 57 PD10 (io), 58 PD11 (io), 59 PD12 (io), 60 PD13 (io), 61 PD14 (io), 62 PD15 (io), 63 PC6 (io), 64 PC7 (io), 65 PC8 (io), 66 PC9 (io), 67 PA8 (io), 68 PA9 (io), 69 PA10 (io), 70 PA11 (io), 71 PA12 (io), 72 PA13 (io), 73 NC (in) hidden, 74 VSS (power), 75 VDD (power), 76 PA14 (io), 77 PA15 (io), 78 PC10 (io), 79 PC11 (io), 80 PC12 (io), 81 PD0 (io), 82 PD1 (io), 83 PD2 (io), 84 PD3 (io), 85 PD4 (io), 86 PD5 (io), 87 PD6 (io), 88 PD7 (io), 89 PB3 (io), 90 PB4 (io), 91 PB5 (io), 92 PB6 (io), 93 PB7 (io), 94 BOOT0 (in), 95 PB8 (io), 96 PB9 (io), 97 PE0 (io), 98 PE1 (io), 99 VSS (power), 100 VDD (power)